# Altium integrated library Altera MAX 7000S.IntLib: 338 symbols (part 16 of 20)
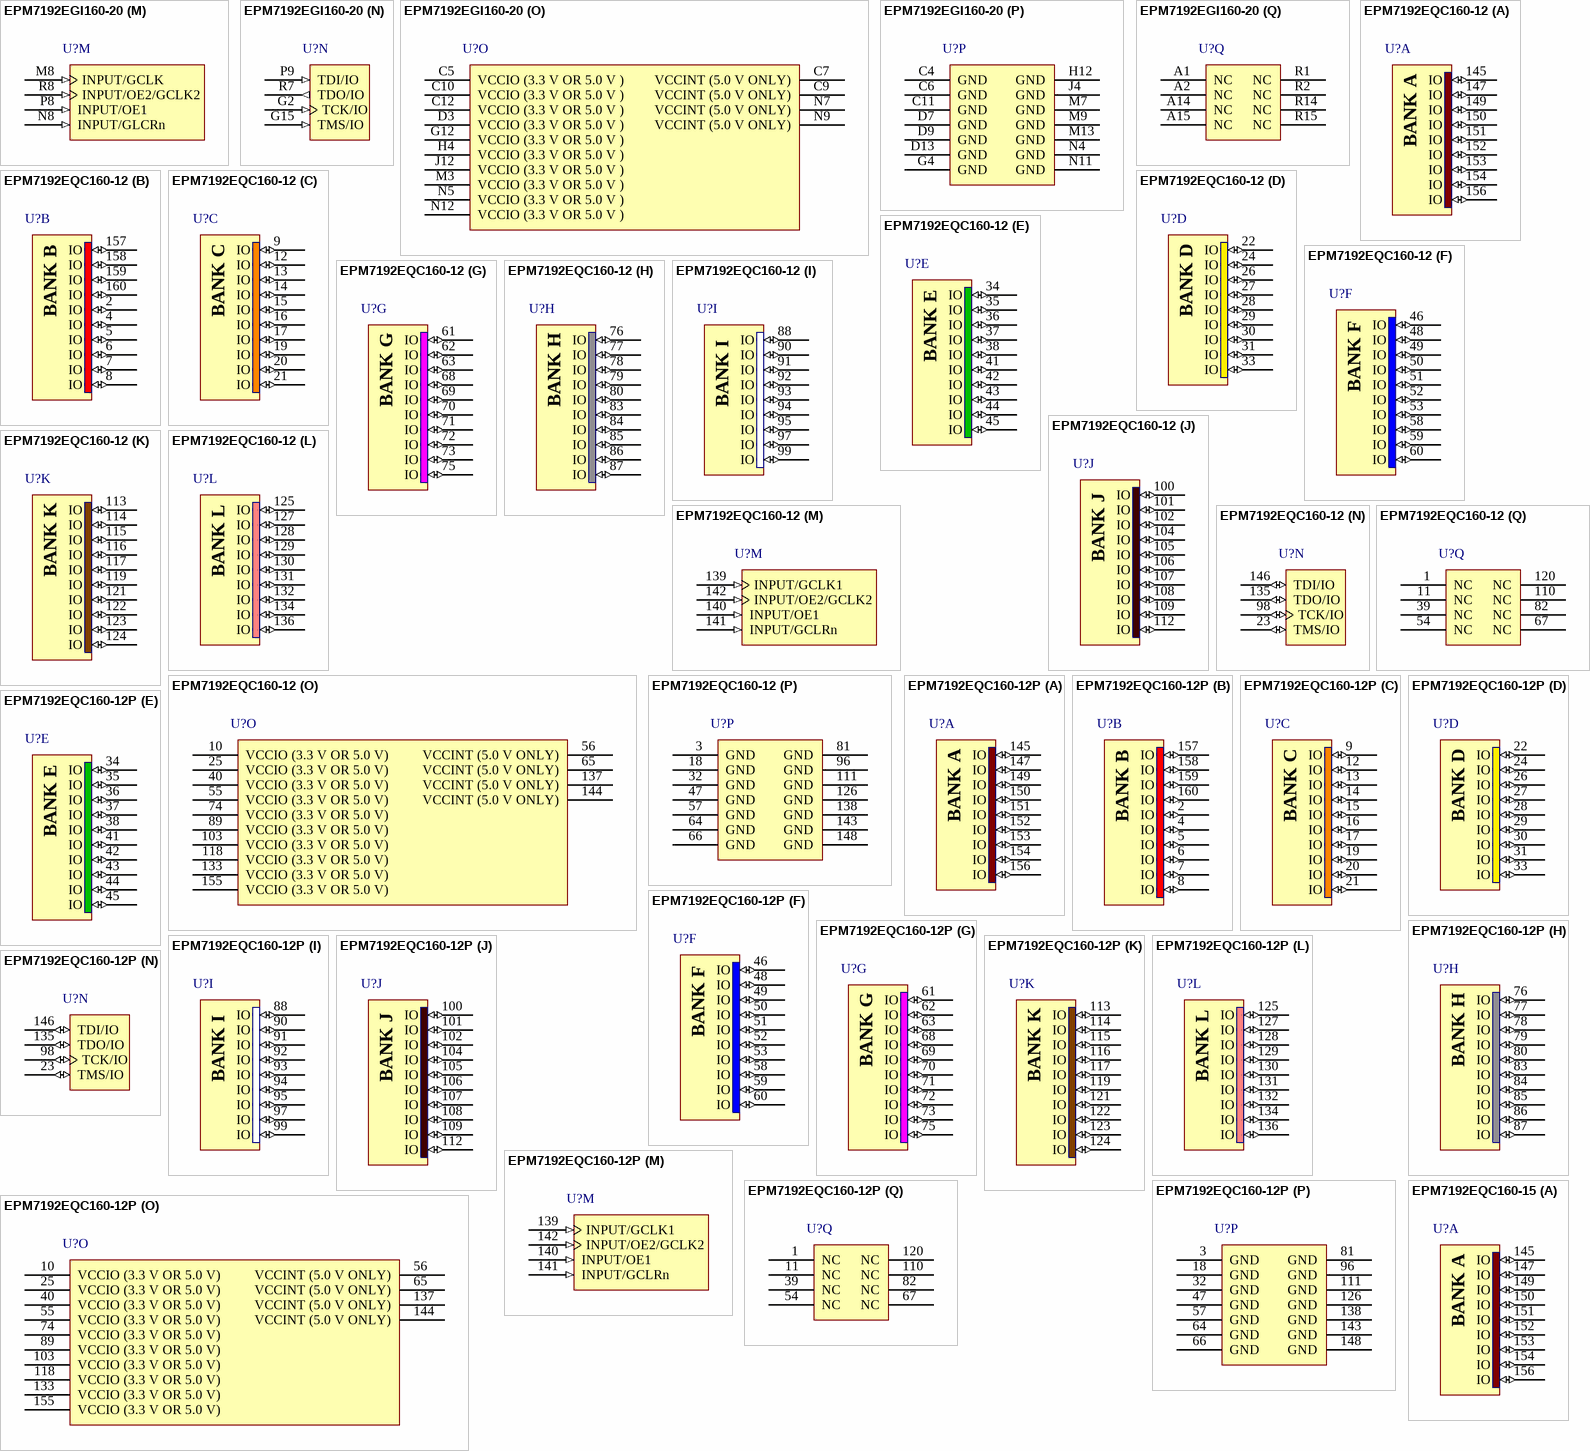
[diagram p112: symbols EPM7192EGI160-20 to EPM7192EQC160-15]

## EPM7192EQC160-12
designator U?
MAX 7000E 5V CPLD, 192 Macrocells, 160-Pin PQFP, Speed Grade 12, Commercial Grade; Published: 24-Nov-2000; LatestRevisionDate: 13-Apr-2006; LatestRevisionNote: IPC-7351 Footprint Added.; DatasheetVersion: ver6.7, Sep-2005; PackageVersion: ver14.3, Jul-2006; PackageReference: PQFP160; Publisher: Altium Limited; PackageDescription: 160-Pin Plastic Quad Flat Pack (PFQP160); Code_JEDEC: MS-022-DD-1; Code_IPC: QFP65P3120X3120-160; ComponentLink1Description: Manufacturer Link; ComponentLink1URL: http://www.altera.com/products/devices/max7k/m7k-index.html; ComponentLink2Description: Datasheet; ComponentLink2URL: http://www.altera.com/literature/ds/m7000.pdf; ComponentLink3Description: Packaging Specification; ComponentLink3URL: http://www.altera.com/literature/ds/dspkg.pdf
footprint PQFP160_N (QFP, 160-Leads, Body 28 x 28mm, Pitch 0.65mm, IPC Medium Density)
footprint PQFP160_L (QFP, 160-Leads, Body 28 x 28mm, Pitch 0.65mm, IPC High Density)
footprint PQFP160_M (QFP, 160-Leads, Body 28 x 28mm, Pitch 0.65mm, IPC Low Density)
3D model EPM7192E-PQFP160 (160-Pin Plastic Quad Flat Pack (PFQP160))
signal-integrity model 7k (MAX 7000S)
part A pins: 145 IO (io), 147 IO (io), 149 IO (io), 150 IO (io), 151 IO (io), 152 IO (io), 153 IO (io), 154 IO (io), 156 IO (io)
part B pins: 2 IO (io), 4 IO (io), 5 IO (io), 6 IO (io), 7 IO (io), 8 IO (io), 157 IO (io), 158 IO (io), 159 IO (io), 160 IO (io)
part C pins: 9 IO (io), 12 IO (io), 13 IO (io), 14 IO (io), 15 IO (io), 16 IO (io), 17 IO (io), 19 IO (io), 20 IO (io), 21 IO (io)
part D pins: 22 IO (io), 24 IO (io), 26 IO (io), 27 IO (io), 28 IO (io), 29 IO (io), 30 IO (io), 31 IO (io), 33 IO (io)
part E pins: 34 IO (io), 35 IO (io), 36 IO (io), 37 IO (io), 38 IO (io), 41 IO (io), 42 IO (io), 43 IO (io), 44 IO (io), 45 IO (io)
part F pins: 46 IO (io), 48 IO (io), 49 IO (io), 50 IO (io), 51 IO (io), 52 IO (io), 53 IO (io), 58 IO (io), 59 IO (io), 60 IO (io)
part G pins: 61 IO (io), 62 IO (io), 63 IO (io), 68 IO (io), 69 IO (io), 70 IO (io), 71 IO (io), 72 IO (io), 73 IO (io), 75 IO (io)
part H pins: 76 IO (io), 77 IO (io), 78 IO (io), 79 IO (io), 80 IO (io), 83 IO (io), 84 IO (io), 85 IO (io), 86 IO (io), 87 IO (io)
part I pins: 88 IO (io), 90 IO (io), 91 IO (io), 92 IO (io), 93 IO (io), 94 IO (io), 95 IO (io), 97 IO (io), 99 IO (io)
part J pins: 100 IO (io), 101 IO (io), 102 IO (io), 104 IO (io), 105 IO (io), 106 IO (io), 107 IO (io), 108 IO (io), 109 IO (io), 112 IO (io)
part K pins: 113 IO (io), 114 IO (io), 115 IO (io), 116 IO (io), 117 IO (io), 119 IO (io), 121 IO (io), 122 IO (io), 123 IO (io), 124 IO (io)
part L pins: 125 IO (io), 127 IO (io), 128 IO (io), 129 IO (io), 130 IO (io), 131 IO (io), 132 IO (io), 134 IO (io), 136 IO (io)
part M pins: 139 INPUT/GCLK1 (in), 140 INPUT/OE1 (in), 141 INPUT/GCLRn (in), 142 INPUT/OE2/GCLK2 (in)
part N pins: 23 TMS/IO (io), 98 TCK/IO (io), 135 TDO/IO (io), 146 TDI/IO (io)
part O pins: 10 VCCIO (3.3 V OR 5.0 V) (power), 25 VCCIO (3.3 V OR 5.0 V) (power), 40 VCCIO (3.3 V OR 5.0 V) (power), 55 VCCIO (3.3 V OR 5.0 V) (power), 56 VCCINT (5.0 V ONLY) (power), 65 VCCINT (5.0 V ONLY) (power), 74 VCCIO (3.3 V OR 5.0 V) (power), 89 VCCIO (3.3 V OR 5.0 V) (power), 103 VCCIO (3.3 V OR 5.0 V) (power), 118 VCCIO (3.3 V OR 5.0 V) (power), 133 VCCIO (3.3 V OR 5.0 V) (power), 137 VCCINT (5.0 V ONLY) (power), 144 VCCINT (5.0 V ONLY) (power), 155 VCCIO (3.3 V OR 5.0 V) (power)
part P pins: 3 GND (power), 18 GND (power), 32 GND (power), 47 GND (power), 57 GND (power), 64 GND (power), 66 GND (power), 81 GND (power), 96 GND (power), 111 GND (power), 126 GND (power), 138 GND (power), 143 GND (power), 148 GND (power)
part Q pins: 1 NC, 11 NC, 39 NC, 54 NC, 67 NC, 82 NC, 110 NC, 120 NC
part A text: BANK A
part B text: BANK B
part C text: BANK C
part D text: BANK D
part E text: BANK E
part F text: BANK F
part G text: BANK G
part H text: BANK H
part I text: BANK I
part J text: BANK J
part K text: BANK K
part L text: BANK L

## EPM7192EQC160-12P
designator U?
MAX 7000E 5V CPLD, 192 Macrocells, 160-Pin PQFP, Speed Grade 12P, Commercial Grade; Published: 24-Nov-2000; LatestRevisionDate: 13-Apr-2006; LatestRevisionNote: IPC-7351 Footprint Added.; DatasheetVersion: ver6.7, Sep-2005; PackageVersion: ver14.3, Jul-2006; PackageReference: PQFP160; Publisher: Altium Limited; PackageDescription: 160-Pin Plastic Quad Flat Pack (PFQP160); Code_JEDEC: MS-022-DD-1; Code_IPC: QFP65P3120X3120-160; ComponentLink1Description: Manufacturer Link; ComponentLink1URL: http://www.altera.com/products/devices/max7k/m7k-index.html; ComponentLink2Description: Datasheet; ComponentLink2URL: http://www.altera.com/literature/ds/m7000.pdf; ComponentLink3Description: Packaging Specification; ComponentLink3URL: http://www.altera.com/literature/ds/dspkg.pdf
footprint PQFP160_N (QFP, 160-Leads, Body 28 x 28mm, Pitch 0.65mm, IPC Medium Density)
footprint PQFP160_L (QFP, 160-Leads, Body 28 x 28mm, Pitch 0.65mm, IPC High Density)
footprint PQFP160_M (QFP, 160-Leads, Body 28 x 28mm, Pitch 0.65mm, IPC Low Density)
3D model EPM7192E-PQFP160 (160-Pin Plastic Quad Flat Pack (PFQP160))
signal-integrity model 7k (MAX 7000S)
part A pins: 145 IO (io), 147 IO (io), 149 IO (io), 150 IO (io), 151 IO (io), 152 IO (io), 153 IO (io), 154 IO (io), 156 IO (io)
part B pins: 2 IO (io), 4 IO (io), 5 IO (io), 6 IO (io), 7 IO (io), 8 IO (io), 157 IO (io), 158 IO (io), 159 IO (io), 160 IO (io)
part C pins: 9 IO (io), 12 IO (io), 13 IO (io), 14 IO (io), 15 IO (io), 16 IO (io), 17 IO (io), 19 IO (io), 20 IO (io), 21 IO (io)
part D pins: 22 IO (io), 24 IO (io), 26 IO (io), 27 IO (io), 28 IO (io), 29 IO (io), 30 IO (io), 31 IO (io), 33 IO (io)
part E pins: 34 IO (io), 35 IO (io), 36 IO (io), 37 IO (io), 38 IO (io), 41 IO (io), 42 IO (io), 43 IO (io), 44 IO (io), 45 IO (io)
part F pins: 46 IO (io), 48 IO (io), 49 IO (io), 50 IO (io), 51 IO (io), 52 IO (io), 53 IO (io), 58 IO (io), 59 IO (io), 60 IO (io)
part G pins: 61 IO (io), 62 IO (io), 63 IO (io), 68 IO (io), 69 IO (io), 70 IO (io), 71 IO (io), 72 IO (io), 73 IO (io), 75 IO (io)
part H pins: 76 IO (io), 77 IO (io), 78 IO (io), 79 IO (io), 80 IO (io), 83 IO (io), 84 IO (io), 85 IO (io), 86 IO (io), 87 IO (io)
part I pins: 88 IO (io), 90 IO (io), 91 IO (io), 92 IO (io), 93 IO (io), 94 IO (io), 95 IO (io), 97 IO (io), 99 IO (io)
part J pins: 100 IO (io), 101 IO (io), 102 IO (io), 104 IO (io), 105 IO (io), 106 IO (io), 107 IO (io), 108 IO (io), 109 IO (io), 112 IO (io)
part K pins: 113 IO (io), 114 IO (io), 115 IO (io), 116 IO (io), 117 IO (io), 119 IO (io), 121 IO (io), 122 IO (io), 123 IO (io), 124 IO (io)
part L pins: 125 IO (io), 127 IO (io), 128 IO (io), 129 IO (io), 130 IO (io), 131 IO (io), 132 IO (io), 134 IO (io), 136 IO (io)
part M pins: 139 INPUT/GCLK1 (in), 140 INPUT/OE1 (in), 141 INPUT/GCLRn (in), 142 INPUT/OE2/GCLK2 (in)
part N pins: 23 TMS/IO (io), 98 TCK/IO (io), 135 TDO/IO (io), 146 TDI/IO (io)
part O pins: 10 VCCIO (3.3 V OR 5.0 V) (power), 25 VCCIO (3.3 V OR 5.0 V) (power), 40 VCCIO (3.3 V OR 5.0 V) (power), 55 VCCIO (3.3 V OR 5.0 V) (power), 56 VCCINT (5.0 V ONLY) (power), 65 VCCINT (5.0 V ONLY) (power), 74 VCCIO (3.3 V OR 5.0 V) (power), 89 VCCIO (3.3 V OR 5.0 V) (power), 103 VCCIO (3.3 V OR 5.0 V) (power), 118 VCCIO (3.3 V OR 5.0 V) (power), 133 VCCIO (3.3 V OR 5.0 V) (power), 137 VCCINT (5.0 V ONLY) (power), 144 VCCINT (5.0 V ONLY) (power), 155 VCCIO (3.3 V OR 5.0 V) (power)
part P pins: 3 GND (power), 18 GND (power), 32 GND (power), 47 GND (power), 57 GND (power), 64 GND (power), 66 GND (power), 81 GND (power), 96 GND (power), 111 GND (power), 126 GND (power), 138 GND (power), 143 GND (power), 148 GND (power)
part Q pins: 1 NC, 11 NC, 39 NC, 54 NC, 67 NC, 82 NC, 110 NC, 120 NC
part A text: BANK A
part B text: BANK B
part C text: BANK C
part D text: BANK D
part E text: BANK E
part F text: BANK F
part G text: BANK G
part H text: BANK H
part I text: BANK I
part J text: BANK J
part K text: BANK K
part L text: BANK L

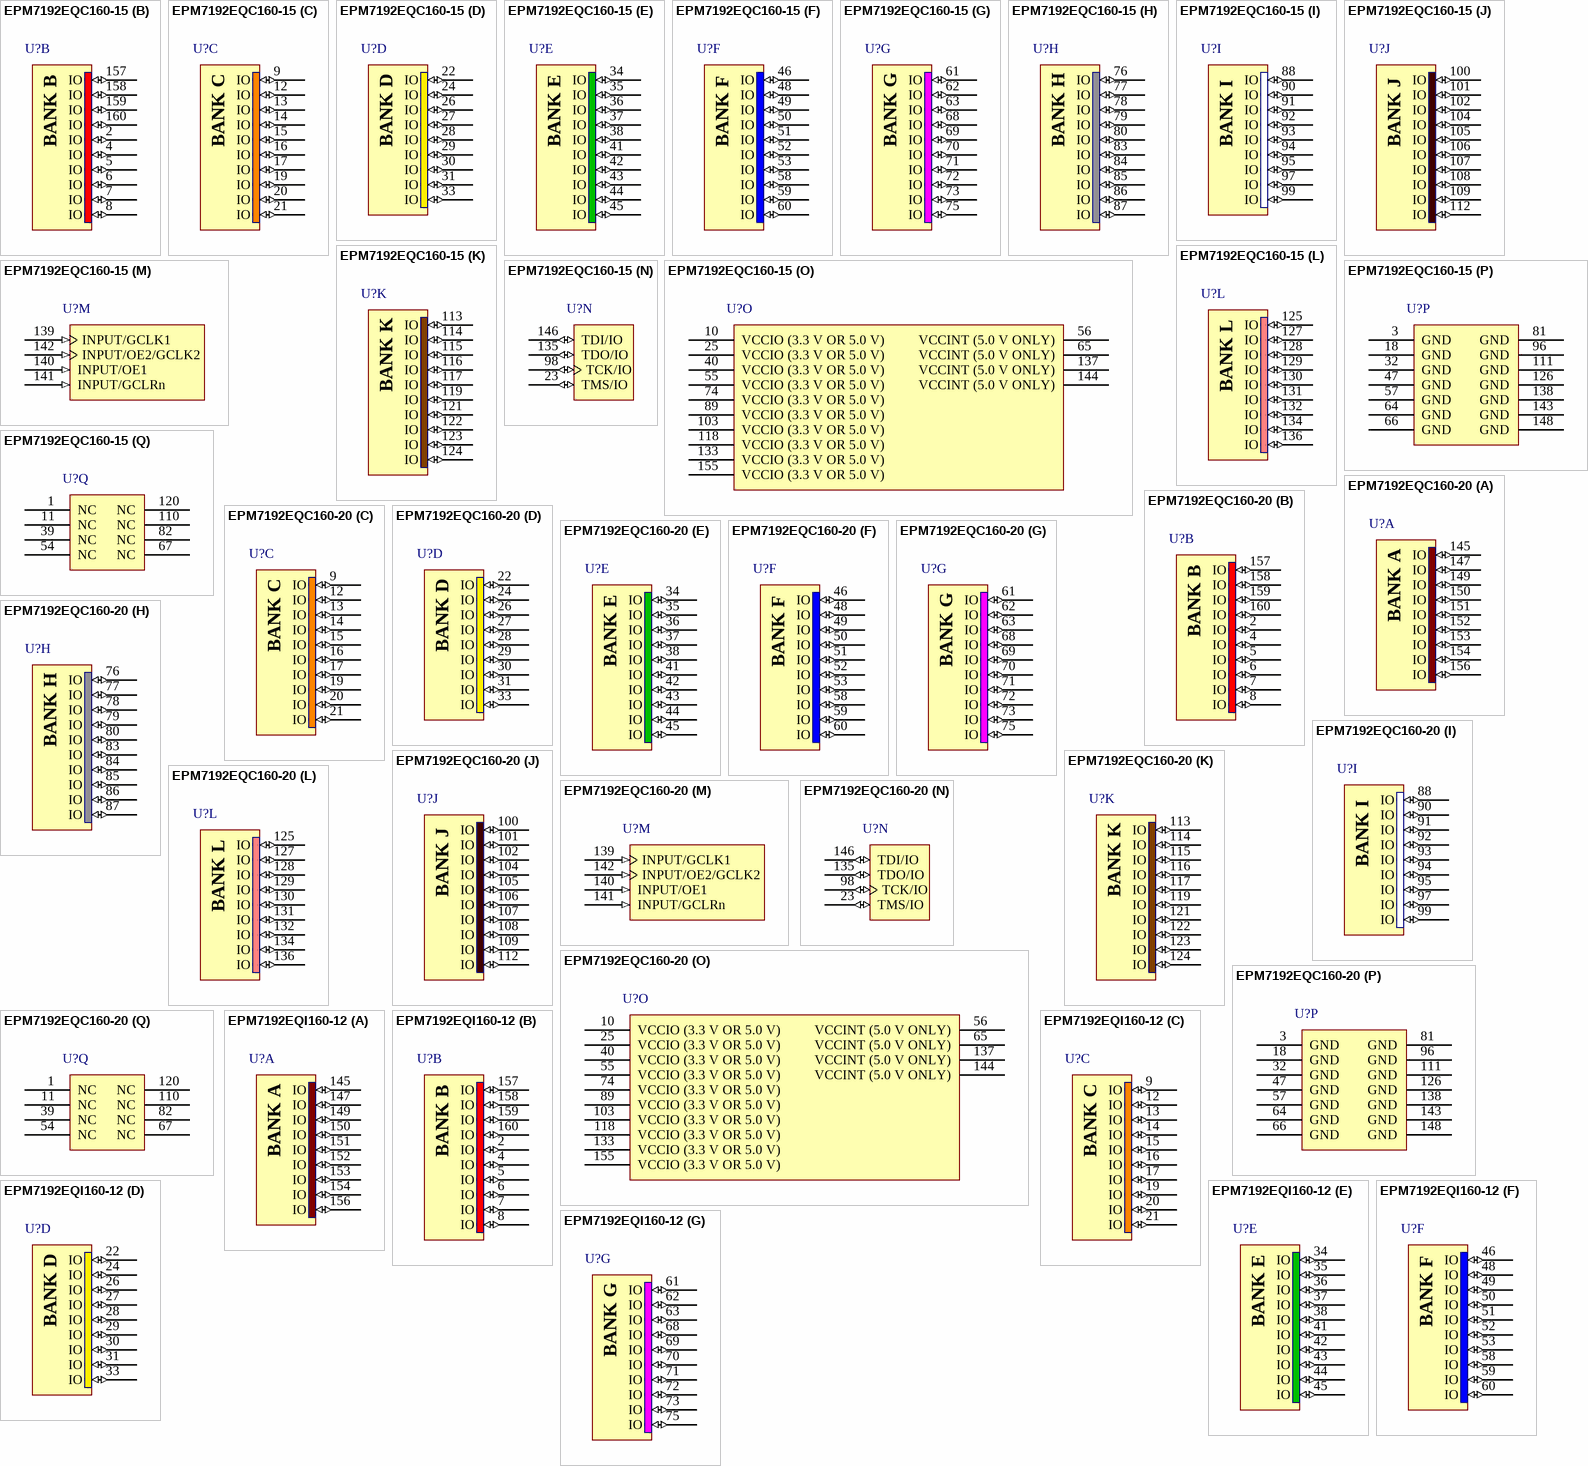
[diagram p75: symbols EPM7192EQC160-15 to EPM7192EQI160-12]

## EPM7192EQC160-15
designator U?
MAX 7000E 5V CPLD, 192 Macrocells, 160-Pin PQFP, Speed Grade 15, Commercial Grade; Published: 24-Nov-2000; LatestRevisionDate: 13-Apr-2006; LatestRevisionNote: IPC-7351 Footprint Added.; DatasheetVersion: ver6.7, Sep-2005; PackageVersion: ver14.3, Jul-2006; PackageReference: PQFP160; Publisher: Altium Limited; PackageDescription: 160-Pin Plastic Quad Flat Pack (PFQP160); Code_JEDEC: MS-022-DD-1; Code_IPC: QFP65P3120X3120-160; ComponentLink1Description: Manufacturer Link; ComponentLink1URL: http://www.altera.com/products/devices/max7k/m7k-index.html; ComponentLink2Description: Datasheet; ComponentLink2URL: http://www.altera.com/literature/ds/m7000.pdf; ComponentLink3Description: Packaging Specification; ComponentLink3URL: http://www.altera.com/literature/ds/dspkg.pdf
footprint PQFP160_N (QFP, 160-Leads, Body 28 x 28mm, Pitch 0.65mm, IPC Medium Density)
footprint PQFP160_L (QFP, 160-Leads, Body 28 x 28mm, Pitch 0.65mm, IPC High Density)
footprint PQFP160_M (QFP, 160-Leads, Body 28 x 28mm, Pitch 0.65mm, IPC Low Density)
3D model EPM7192E-PQFP160 (160-Pin Plastic Quad Flat Pack (PFQP160))
signal-integrity model 7k (MAX 7000S)
part A pins: 145 IO (io), 147 IO (io), 149 IO (io), 150 IO (io), 151 IO (io), 152 IO (io), 153 IO (io), 154 IO (io), 156 IO (io)
part B pins: 2 IO (io), 4 IO (io), 5 IO (io), 6 IO (io), 7 IO (io), 8 IO (io), 157 IO (io), 158 IO (io), 159 IO (io), 160 IO (io)
part C pins: 9 IO (io), 12 IO (io), 13 IO (io), 14 IO (io), 15 IO (io), 16 IO (io), 17 IO (io), 19 IO (io), 20 IO (io), 21 IO (io)
part D pins: 22 IO (io), 24 IO (io), 26 IO (io), 27 IO (io), 28 IO (io), 29 IO (io), 30 IO (io), 31 IO (io), 33 IO (io)
part E pins: 34 IO (io), 35 IO (io), 36 IO (io), 37 IO (io), 38 IO (io), 41 IO (io), 42 IO (io), 43 IO (io), 44 IO (io), 45 IO (io)
part F pins: 46 IO (io), 48 IO (io), 49 IO (io), 50 IO (io), 51 IO (io), 52 IO (io), 53 IO (io), 58 IO (io), 59 IO (io), 60 IO (io)
part G pins: 61 IO (io), 62 IO (io), 63 IO (io), 68 IO (io), 69 IO (io), 70 IO (io), 71 IO (io), 72 IO (io), 73 IO (io), 75 IO (io)
part H pins: 76 IO (io), 77 IO (io), 78 IO (io), 79 IO (io), 80 IO (io), 83 IO (io), 84 IO (io), 85 IO (io), 86 IO (io), 87 IO (io)
part I pins: 88 IO (io), 90 IO (io), 91 IO (io), 92 IO (io), 93 IO (io), 94 IO (io), 95 IO (io), 97 IO (io), 99 IO (io)
part J pins: 100 IO (io), 101 IO (io), 102 IO (io), 104 IO (io), 105 IO (io), 106 IO (io), 107 IO (io), 108 IO (io), 109 IO (io), 112 IO (io)
part K pins: 113 IO (io), 114 IO (io), 115 IO (io), 116 IO (io), 117 IO (io), 119 IO (io), 121 IO (io), 122 IO (io), 123 IO (io), 124 IO (io)
part L pins: 125 IO (io), 127 IO (io), 128 IO (io), 129 IO (io), 130 IO (io), 131 IO (io), 132 IO (io), 134 IO (io), 136 IO (io)
part M pins: 139 INPUT/GCLK1 (in), 140 INPUT/OE1 (in), 141 INPUT/GCLRn (in), 142 INPUT/OE2/GCLK2 (in)
part N pins: 23 TMS/IO (io), 98 TCK/IO (io), 135 TDO/IO (io), 146 TDI/IO (io)
part O pins: 10 VCCIO (3.3 V OR 5.0 V) (power), 25 VCCIO (3.3 V OR 5.0 V) (power), 40 VCCIO (3.3 V OR 5.0 V) (power), 55 VCCIO (3.3 V OR 5.0 V) (power), 56 VCCINT (5.0 V ONLY) (power), 65 VCCINT (5.0 V ONLY) (power), 74 VCCIO (3.3 V OR 5.0 V) (power), 89 VCCIO (3.3 V OR 5.0 V) (power), 103 VCCIO (3.3 V OR 5.0 V) (power), 118 VCCIO (3.3 V OR 5.0 V) (power), 133 VCCIO (3.3 V OR 5.0 V) (power), 137 VCCINT (5.0 V ONLY) (power), 144 VCCINT (5.0 V ONLY) (power), 155 VCCIO (3.3 V OR 5.0 V) (power)
part P pins: 3 GND (power), 18 GND (power), 32 GND (power), 47 GND (power), 57 GND (power), 64 GND (power), 66 GND (power), 81 GND (power), 96 GND (power), 111 GND (power), 126 GND (power), 138 GND (power), 143 GND (power), 148 GND (power)
part Q pins: 1 NC, 11 NC, 39 NC, 54 NC, 67 NC, 82 NC, 110 NC, 120 NC
part A text: BANK A
part B text: BANK B
part C text: BANK C
part D text: BANK D
part E text: BANK E
part F text: BANK F
part G text: BANK G
part H text: BANK H
part I text: BANK I
part J text: BANK J
part K text: BANK K
part L text: BANK L

## EPM7192EQC160-20
designator U?
MAX 7000E 5V CPLD, 192 Macrocells, 160-Pin PQFP, Speed Grade 20, Commercial Grade; Published: 24-Nov-2000; LatestRevisionDate: 13-Apr-2006; LatestRevisionNote: IPC-7351 Footprint Added.; DatasheetVersion: ver6.7, Sep-2005; PackageVersion: ver14.3, Jul-2006; PackageReference: PQFP160; Publisher: Altium Limited; PackageDescription: 160-Pin Plastic Quad Flat Pack (PFQP160); Code_JEDEC: MS-022-DD-1; Code_IPC: QFP65P3120X3120-160; ComponentLink1Description: Manufacturer Link; ComponentLink1URL: http://www.altera.com/products/devices/max7k/m7k-index.html; ComponentLink2Description: Datasheet; ComponentLink2URL: http://www.altera.com/literature/ds/m7000.pdf; ComponentLink3Description: Packaging Specification; ComponentLink3URL: http://www.altera.com/literature/ds/dspkg.pdf
footprint PQFP160_N (QFP, 160-Leads, Body 28 x 28mm, Pitch 0.65mm, IPC Medium Density)
footprint PQFP160_L (QFP, 160-Leads, Body 28 x 28mm, Pitch 0.65mm, IPC High Density)
footprint PQFP160_M (QFP, 160-Leads, Body 28 x 28mm, Pitch 0.65mm, IPC Low Density)
3D model EPM7192E-PQFP160 (160-Pin Plastic Quad Flat Pack (PFQP160))
signal-integrity model 7k (MAX 7000S)
part A pins: 145 IO (io), 147 IO (io), 149 IO (io), 150 IO (io), 151 IO (io), 152 IO (io), 153 IO (io), 154 IO (io), 156 IO (io)
part B pins: 2 IO (io), 4 IO (io), 5 IO (io), 6 IO (io), 7 IO (io), 8 IO (io), 157 IO (io), 158 IO (io), 159 IO (io), 160 IO (io)
part C pins: 9 IO (io), 12 IO (io), 13 IO (io), 14 IO (io), 15 IO (io), 16 IO (io), 17 IO (io), 19 IO (io), 20 IO (io), 21 IO (io)
part D pins: 22 IO (io), 24 IO (io), 26 IO (io), 27 IO (io), 28 IO (io), 29 IO (io), 30 IO (io), 31 IO (io), 33 IO (io)
part E pins: 34 IO (io), 35 IO (io), 36 IO (io), 37 IO (io), 38 IO (io), 41 IO (io), 42 IO (io), 43 IO (io), 44 IO (io), 45 IO (io)
part F pins: 46 IO (io), 48 IO (io), 49 IO (io), 50 IO (io), 51 IO (io), 52 IO (io), 53 IO (io), 58 IO (io), 59 IO (io), 60 IO (io)
part G pins: 61 IO (io), 62 IO (io), 63 IO (io), 68 IO (io), 69 IO (io), 70 IO (io), 71 IO (io), 72 IO (io), 73 IO (io), 75 IO (io)
part H pins: 76 IO (io), 77 IO (io), 78 IO (io), 79 IO (io), 80 IO (io), 83 IO (io), 84 IO (io), 85 IO (io), 86 IO (io), 87 IO (io)
part I pins: 88 IO (io), 90 IO (io), 91 IO (io), 92 IO (io), 93 IO (io), 94 IO (io), 95 IO (io), 97 IO (io), 99 IO (io)
part J pins: 100 IO (io), 101 IO (io), 102 IO (io), 104 IO (io), 105 IO (io), 106 IO (io), 107 IO (io), 108 IO (io), 109 IO (io), 112 IO (io)
part K pins: 113 IO (io), 114 IO (io), 115 IO (io), 116 IO (io), 117 IO (io), 119 IO (io), 121 IO (io), 122 IO (io), 123 IO (io), 124 IO (io)
part L pins: 125 IO (io), 127 IO (io), 128 IO (io), 129 IO (io), 130 IO (io), 131 IO (io), 132 IO (io), 134 IO (io), 136 IO (io)
part M pins: 139 INPUT/GCLK1 (in), 140 INPUT/OE1 (in), 141 INPUT/GCLRn (in), 142 INPUT/OE2/GCLK2 (in)
part N pins: 23 TMS/IO (io), 98 TCK/IO (io), 135 TDO/IO (io), 146 TDI/IO (io)
part O pins: 10 VCCIO (3.3 V OR 5.0 V) (power), 25 VCCIO (3.3 V OR 5.0 V) (power), 40 VCCIO (3.3 V OR 5.0 V) (power), 55 VCCIO (3.3 V OR 5.0 V) (power), 56 VCCINT (5.0 V ONLY) (power), 65 VCCINT (5.0 V ONLY) (power), 74 VCCIO (3.3 V OR 5.0 V) (power), 89 VCCIO (3.3 V OR 5.0 V) (power), 103 VCCIO (3.3 V OR 5.0 V) (power), 118 VCCIO (3.3 V OR 5.0 V) (power), 133 VCCIO (3.3 V OR 5.0 V) (power), 137 VCCINT (5.0 V ONLY) (power), 144 VCCINT (5.0 V ONLY) (power), 155 VCCIO (3.3 V OR 5.0 V) (power)
part P pins: 3 GND (power), 18 GND (power), 32 GND (power), 47 GND (power), 57 GND (power), 64 GND (power), 66 GND (power), 81 GND (power), 96 GND (power), 111 GND (power), 126 GND (power), 138 GND (power), 143 GND (power), 148 GND (power)
part Q pins: 1 NC, 11 NC, 39 NC, 54 NC, 67 NC, 82 NC, 110 NC, 120 NC
part A text: BANK A
part B text: BANK B
part C text: BANK C
part D text: BANK D
part E text: BANK E
part F text: BANK F
part G text: BANK G
part H text: BANK H
part I text: BANK I
part J text: BANK J
part K text: BANK K
part L text: BANK L

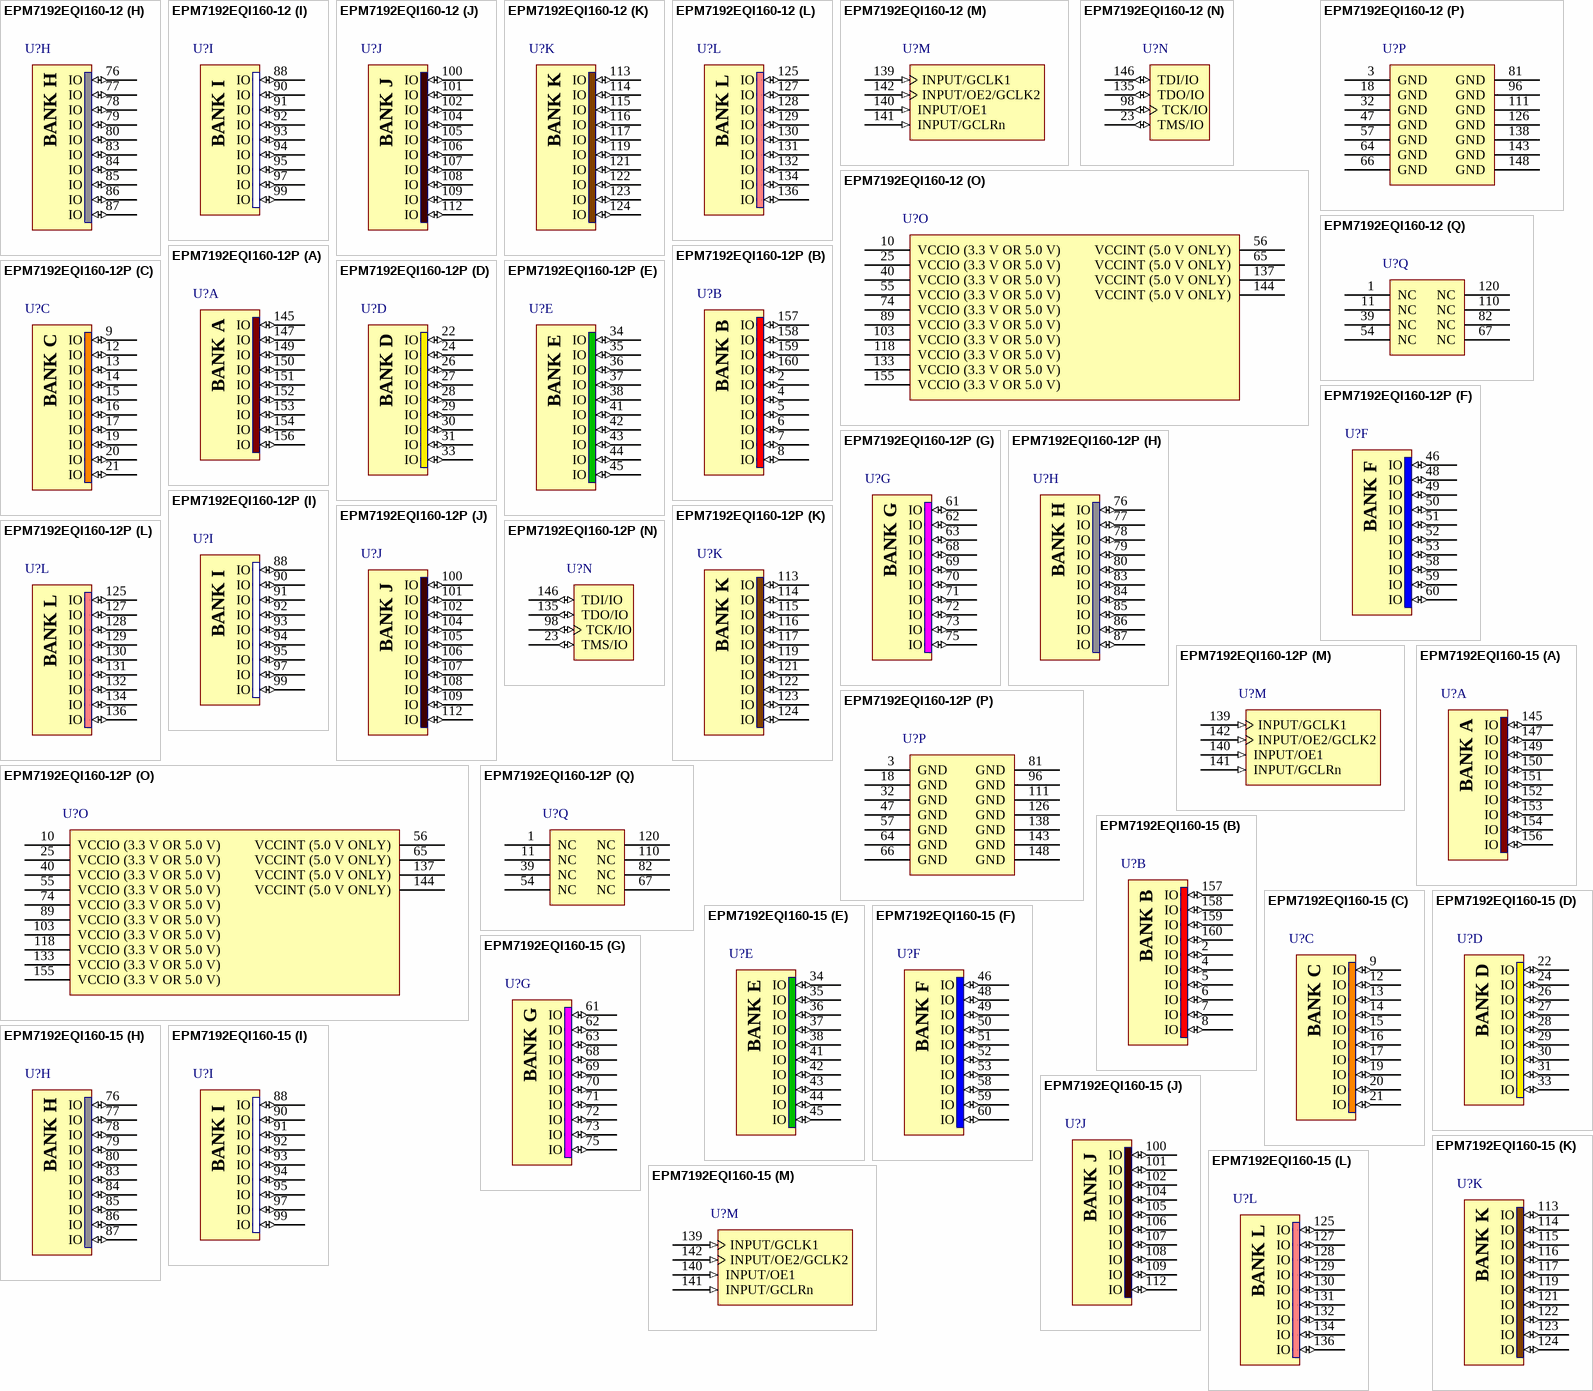
[diagram p76: symbols EPM7192EQI160-12 to EPM7192EQI160-15]

## EPM7192EQI160-12
designator U?
MAX 7000E 5V CPLD, 192 Macrocells, 160-Pin PQFP, Speed Grade 12, Industrial Grade; Published: 17-Sep-2003; LatestRevisionDate: 13-Apr-2006; LatestRevisionNote: IPC-7351 Footprint Added.; DatasheetVersion: ver6.7, Sep-2005; PackageVersion: ver14.3, Jul-2006; PackageReference: PQFP160; Publisher: Altium Limited; PackageDescription: 160-Pin Plastic Quad Flat Pack (PFQP160); Code_JEDEC: MS-022-DD-1; Code_IPC: QFP65P3120X3120-160; ComponentLink1Description: Manufacturer Link; ComponentLink1URL: http://www.altera.com/products/devices/max7k/m7k-index.html; ComponentLink2Description: Datasheet; ComponentLink2URL: http://www.altera.com/literature/ds/m7000.pdf; ComponentLink3Description: Packaging Specification; ComponentLink3URL: http://www.altera.com/literature/ds/dspkg.pdf
footprint PQFP160_N (QFP, 160-Leads, Body 28 x 28mm, Pitch 0.65mm, IPC Medium Density)
footprint PQFP160_L (QFP, 160-Leads, Body 28 x 28mm, Pitch 0.65mm, IPC High Density)
footprint PQFP160_M (QFP, 160-Leads, Body 28 x 28mm, Pitch 0.65mm, IPC Low Density)
3D model EPM7192E-PQFP160 (160-Pin Plastic Quad Flat Pack (PFQP160))
signal-integrity model 7k (MAX 7000S)
part A pins: 145 IO (io), 147 IO (io), 149 IO (io), 150 IO (io), 151 IO (io), 152 IO (io), 153 IO (io), 154 IO (io), 156 IO (io)
part B pins: 2 IO (io), 4 IO (io), 5 IO (io), 6 IO (io), 7 IO (io), 8 IO (io), 157 IO (io), 158 IO (io), 159 IO (io), 160 IO (io)
part C pins: 9 IO (io), 12 IO (io), 13 IO (io), 14 IO (io), 15 IO (io), 16 IO (io), 17 IO (io), 19 IO (io), 20 IO (io), 21 IO (io)
part D pins: 22 IO (io), 24 IO (io), 26 IO (io), 27 IO (io), 28 IO (io), 29 IO (io), 30 IO (io), 31 IO (io), 33 IO (io)
part E pins: 34 IO (io), 35 IO (io), 36 IO (io), 37 IO (io), 38 IO (io), 41 IO (io), 42 IO (io), 43 IO (io), 44 IO (io), 45 IO (io)
part F pins: 46 IO (io), 48 IO (io), 49 IO (io), 50 IO (io), 51 IO (io), 52 IO (io), 53 IO (io), 58 IO (io), 59 IO (io), 60 IO (io)
part G pins: 61 IO (io), 62 IO (io), 63 IO (io), 68 IO (io), 69 IO (io), 70 IO (io), 71 IO (io), 72 IO (io), 73 IO (io), 75 IO (io)
part H pins: 76 IO (io), 77 IO (io), 78 IO (io), 79 IO (io), 80 IO (io), 83 IO (io), 84 IO (io), 85 IO (io), 86 IO (io), 87 IO (io)
part I pins: 88 IO (io), 90 IO (io), 91 IO (io), 92 IO (io), 93 IO (io), 94 IO (io), 95 IO (io), 97 IO (io), 99 IO (io)
part J pins: 100 IO (io), 101 IO (io), 102 IO (io), 104 IO (io), 105 IO (io), 106 IO (io), 107 IO (io), 108 IO (io), 109 IO (io), 112 IO (io)
part K pins: 113 IO (io), 114 IO (io), 115 IO (io), 116 IO (io), 117 IO (io), 119 IO (io), 121 IO (io), 122 IO (io), 123 IO (io), 124 IO (io)
part L pins: 125 IO (io), 127 IO (io), 128 IO (io), 129 IO (io), 130 IO (io), 131 IO (io), 132 IO (io), 134 IO (io), 136 IO (io)
part M pins: 139 INPUT/GCLK1 (in), 140 INPUT/OE1 (in), 141 INPUT/GCLRn (in), 142 INPUT/OE2/GCLK2 (in)
part N pins: 23 TMS/IO (io), 98 TCK/IO (io), 135 TDO/IO (io), 146 TDI/IO (io)
part O pins: 10 VCCIO (3.3 V OR 5.0 V) (power), 25 VCCIO (3.3 V OR 5.0 V) (power), 40 VCCIO (3.3 V OR 5.0 V) (power), 55 VCCIO (3.3 V OR 5.0 V) (power), 56 VCCINT (5.0 V ONLY) (power), 65 VCCINT (5.0 V ONLY) (power), 74 VCCIO (3.3 V OR 5.0 V) (power), 89 VCCIO (3.3 V OR 5.0 V) (power), 103 VCCIO (3.3 V OR 5.0 V) (power), 118 VCCIO (3.3 V OR 5.0 V) (power), 133 VCCIO (3.3 V OR 5.0 V) (power), 137 VCCINT (5.0 V ONLY) (power), 144 VCCINT (5.0 V ONLY) (power), 155 VCCIO (3.3 V OR 5.0 V) (power)
part P pins: 3 GND (power), 18 GND (power), 32 GND (power), 47 GND (power), 57 GND (power), 64 GND (power), 66 GND (power), 81 GND (power), 96 GND (power), 111 GND (power), 126 GND (power), 138 GND (power), 143 GND (power), 148 GND (power)
part Q pins: 1 NC, 11 NC, 39 NC, 54 NC, 67 NC, 82 NC, 110 NC, 120 NC
part A text: BANK A
part B text: BANK B
part C text: BANK C
part D text: BANK D
part E text: BANK E
part F text: BANK F
part G text: BANK G
part H text: BANK H
part I text: BANK I
part J text: BANK J
part K text: BANK K
part L text: BANK L

## EPM7192EQI160-12P
designator U?
MAX 7000E 5V CPLD, 192 Macrocells, 160-Pin PQFP, Speed Grade 12P, Industrial Grade; Published: 17-Sep-2003; LatestRevisionDate: 13-Apr-2006; LatestRevisionNote: IPC-7351 Footprint Added.; DatasheetVersion: ver6.7, Sep-2005; PackageVersion: ver14.3, Jul-2006; PackageReference: PQFP160; Publisher: Altium Limited; PackageDescription: 160-Pin Plastic Quad Flat Pack (PFQP160); Code_JEDEC: MS-022-DD-1; Code_IPC: QFP65P3120X3120-160; ComponentLink1Description: Manufacturer Link; ComponentLink1URL: http://www.altera.com/products/devices/max7k/m7k-index.html; ComponentLink2Description: Datasheet; ComponentLink2URL: http://www.altera.com/literature/ds/m7000.pdf; ComponentLink3Description: Packaging Specification; ComponentLink3URL: http://www.altera.com/literature/ds/dspkg.pdf
footprint PQFP160_N (QFP, 160-Leads, Body 28 x 28mm, Pitch 0.65mm, IPC Medium Density)
footprint PQFP160_L (QFP, 160-Leads, Body 28 x 28mm, Pitch 0.65mm, IPC High Density)
footprint PQFP160_M (QFP, 160-Leads, Body 28 x 28mm, Pitch 0.65mm, IPC Low Density)
3D model EPM7192E-PQFP160 (160-Pin Plastic Quad Flat Pack (PFQP160))
signal-integrity model 7k (MAX 7000S)
part A pins: 145 IO (io), 147 IO (io), 149 IO (io), 150 IO (io), 151 IO (io), 152 IO (io), 153 IO (io), 154 IO (io), 156 IO (io)
part B pins: 2 IO (io), 4 IO (io), 5 IO (io), 6 IO (io), 7 IO (io), 8 IO (io), 157 IO (io), 158 IO (io), 159 IO (io), 160 IO (io)
part C pins: 9 IO (io), 12 IO (io), 13 IO (io), 14 IO (io), 15 IO (io), 16 IO (io), 17 IO (io), 19 IO (io), 20 IO (io), 21 IO (io)
part D pins: 22 IO (io), 24 IO (io), 26 IO (io), 27 IO (io), 28 IO (io), 29 IO (io), 30 IO (io), 31 IO (io), 33 IO (io)
part E pins: 34 IO (io), 35 IO (io), 36 IO (io), 37 IO (io), 38 IO (io), 41 IO (io), 42 IO (io), 43 IO (io), 44 IO (io), 45 IO (io)
part F pins: 46 IO (io), 48 IO (io), 49 IO (io), 50 IO (io), 51 IO (io), 52 IO (io), 53 IO (io), 58 IO (io), 59 IO (io), 60 IO (io)
part G pins: 61 IO (io), 62 IO (io), 63 IO (io), 68 IO (io), 69 IO (io), 70 IO (io), 71 IO (io), 72 IO (io), 73 IO (io), 75 IO (io)
part H pins: 76 IO (io), 77 IO (io), 78 IO (io), 79 IO (io), 80 IO (io), 83 IO (io), 84 IO (io), 85 IO (io), 86 IO (io), 87 IO (io)
part I pins: 88 IO (io), 90 IO (io), 91 IO (io), 92 IO (io), 93 IO (io), 94 IO (io), 95 IO (io), 97 IO (io), 99 IO (io)
part J pins: 100 IO (io), 101 IO (io), 102 IO (io), 104 IO (io), 105 IO (io), 106 IO (io), 107 IO (io), 108 IO (io), 109 IO (io), 112 IO (io)
part K pins: 113 IO (io), 114 IO (io), 115 IO (io), 116 IO (io), 117 IO (io), 119 IO (io), 121 IO (io), 122 IO (io), 123 IO (io), 124 IO (io)
part L pins: 125 IO (io), 127 IO (io), 128 IO (io), 129 IO (io), 130 IO (io), 131 IO (io), 132 IO (io), 134 IO (io), 136 IO (io)
part M pins: 139 INPUT/GCLK1 (in), 140 INPUT/OE1 (in), 141 INPUT/GCLRn (in), 142 INPUT/OE2/GCLK2 (in)
part N pins: 23 TMS/IO (io), 98 TCK/IO (io), 135 TDO/IO (io), 146 TDI/IO (io)
part O pins: 10 VCCIO (3.3 V OR 5.0 V) (power), 25 VCCIO (3.3 V OR 5.0 V) (power), 40 VCCIO (3.3 V OR 5.0 V) (power), 55 VCCIO (3.3 V OR 5.0 V) (power), 56 VCCINT (5.0 V ONLY) (power), 65 VCCINT (5.0 V ONLY) (power), 74 VCCIO (3.3 V OR 5.0 V) (power), 89 VCCIO (3.3 V OR 5.0 V) (power), 103 VCCIO (3.3 V OR 5.0 V) (power), 118 VCCIO (3.3 V OR 5.0 V) (power), 133 VCCIO (3.3 V OR 5.0 V) (power), 137 VCCINT (5.0 V ONLY) (power), 144 VCCINT (5.0 V ONLY) (power), 155 VCCIO (3.3 V OR 5.0 V) (power)
part P pins: 3 GND (power), 18 GND (power), 32 GND (power), 47 GND (power), 57 GND (power), 64 GND (power), 66 GND (power), 81 GND (power), 96 GND (power), 111 GND (power), 126 GND (power), 138 GND (power), 143 GND (power), 148 GND (power)
part Q pins: 1 NC, 11 NC, 39 NC, 54 NC, 67 NC, 82 NC, 110 NC, 120 NC
part A text: BANK A
part B text: BANK B
part C text: BANK C
part D text: BANK D
part E text: BANK E
part F text: BANK F
part G text: BANK G
part H text: BANK H
part I text: BANK I
part J text: BANK J
part K text: BANK K
part L text: BANK L

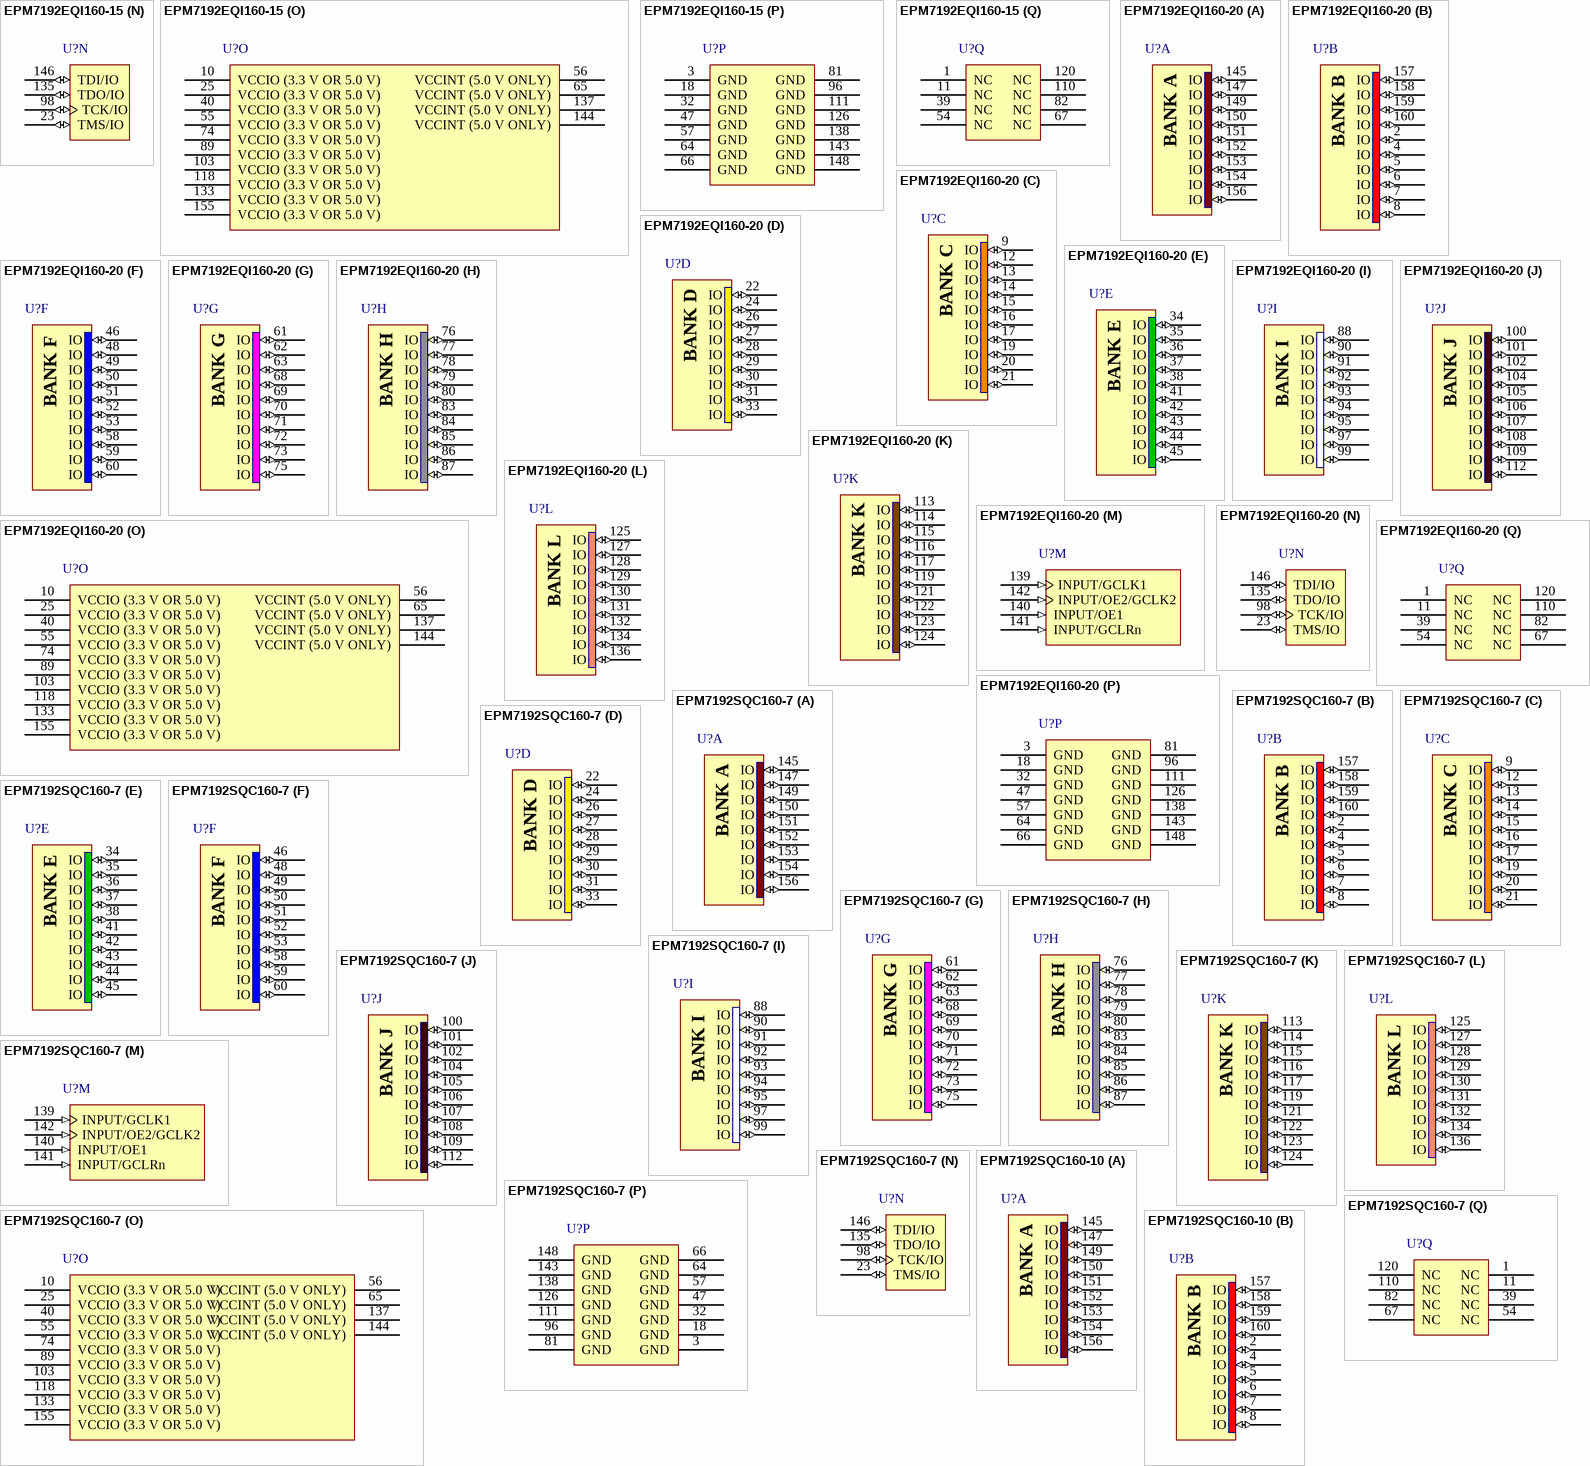
[diagram p77: symbols EPM7192EQI160-15 to EPM7192SQC160-10]

## EPM7192EQI160-15
designator U?
MAX 7000E 5V CPLD, 192 Macrocells, 160-Pin PQFP, Speed Grade 15, Industrial Grade; Published: 24-Nov-2000; LatestRevisionDate: 13-Apr-2006; LatestRevisionNote: IPC-7351 Footprint Added.; DatasheetVersion: ver6.7, Sep-2005; PackageVersion: ver14.3, Jul-2006; PackageReference: PQFP160; Publisher: Altium Limited; PackageDescription: 160-Pin Plastic Quad Flat Pack (PFQP160); Code_JEDEC: MS-022-DD-1; Code_IPC: QFP65P3120X3120-160; ComponentLink1Description: Manufacturer Link; ComponentLink1URL: http://www.altera.com/products/devices/max7k/m7k-index.html; ComponentLink2Description: Datasheet; ComponentLink2URL: http://www.altera.com/literature/ds/m7000.pdf; ComponentLink3Description: Packaging Specification; ComponentLink3URL: http://www.altera.com/literature/ds/dspkg.pdf
footprint PQFP160_N (QFP, 160-Leads, Body 28 x 28mm, Pitch 0.65mm, IPC Medium Density)
footprint PQFP160_L (QFP, 160-Leads, Body 28 x 28mm, Pitch 0.65mm, IPC High Density)
footprint PQFP160_M (QFP, 160-Leads, Body 28 x 28mm, Pitch 0.65mm, IPC Low Density)
3D model EPM7192E-PQFP160 (160-Pin Plastic Quad Flat Pack (PFQP160))
signal-integrity model 7k (MAX 7000S)
part A pins: 145 IO (io), 147 IO (io), 149 IO (io), 150 IO (io), 151 IO (io), 152 IO (io), 153 IO (io), 154 IO (io), 156 IO (io)
part B pins: 2 IO (io), 4 IO (io), 5 IO (io), 6 IO (io), 7 IO (io), 8 IO (io), 157 IO (io), 158 IO (io), 159 IO (io), 160 IO (io)
part C pins: 9 IO (io), 12 IO (io), 13 IO (io), 14 IO (io), 15 IO (io), 16 IO (io), 17 IO (io), 19 IO (io), 20 IO (io), 21 IO (io)
part D pins: 22 IO (io), 24 IO (io), 26 IO (io), 27 IO (io), 28 IO (io), 29 IO (io), 30 IO (io), 31 IO (io), 33 IO (io)
part E pins: 34 IO (io), 35 IO (io), 36 IO (io), 37 IO (io), 38 IO (io), 41 IO (io), 42 IO (io), 43 IO (io), 44 IO (io), 45 IO (io)
part F pins: 46 IO (io), 48 IO (io), 49 IO (io), 50 IO (io), 51 IO (io), 52 IO (io), 53 IO (io), 58 IO (io), 59 IO (io), 60 IO (io)
part G pins: 61 IO (io), 62 IO (io), 63 IO (io), 68 IO (io), 69 IO (io), 70 IO (io), 71 IO (io), 72 IO (io), 73 IO (io), 75 IO (io)
part H pins: 76 IO (io), 77 IO (io), 78 IO (io), 79 IO (io), 80 IO (io), 83 IO (io), 84 IO (io), 85 IO (io), 86 IO (io), 87 IO (io)
part I pins: 88 IO (io), 90 IO (io), 91 IO (io), 92 IO (io), 93 IO (io), 94 IO (io), 95 IO (io), 97 IO (io), 99 IO (io)
part J pins: 100 IO (io), 101 IO (io), 102 IO (io), 104 IO (io), 105 IO (io), 106 IO (io), 107 IO (io), 108 IO (io), 109 IO (io), 112 IO (io)
part K pins: 113 IO (io), 114 IO (io), 115 IO (io), 116 IO (io), 117 IO (io), 119 IO (io), 121 IO (io), 122 IO (io), 123 IO (io), 124 IO (io)
part L pins: 125 IO (io), 127 IO (io), 128 IO (io), 129 IO (io), 130 IO (io), 131 IO (io), 132 IO (io), 134 IO (io), 136 IO (io)
part M pins: 139 INPUT/GCLK1 (in), 140 INPUT/OE1 (in), 141 INPUT/GCLRn (in), 142 INPUT/OE2/GCLK2 (in)
part N pins: 23 TMS/IO (io), 98 TCK/IO (io), 135 TDO/IO (io), 146 TDI/IO (io)
part O pins: 10 VCCIO (3.3 V OR 5.0 V) (power), 25 VCCIO (3.3 V OR 5.0 V) (power), 40 VCCIO (3.3 V OR 5.0 V) (power), 55 VCCIO (3.3 V OR 5.0 V) (power), 56 VCCINT (5.0 V ONLY) (power), 65 VCCINT (5.0 V ONLY) (power), 74 VCCIO (3.3 V OR 5.0 V) (power), 89 VCCIO (3.3 V OR 5.0 V) (power), 103 VCCIO (3.3 V OR 5.0 V) (power), 118 VCCIO (3.3 V OR 5.0 V) (power), 133 VCCIO (3.3 V OR 5.0 V) (power), 137 VCCINT (5.0 V ONLY) (power), 144 VCCINT (5.0 V ONLY) (power), 155 VCCIO (3.3 V OR 5.0 V) (power)
part P pins: 3 GND (power), 18 GND (power), 32 GND (power), 47 GND (power), 57 GND (power), 64 GND (power), 66 GND (power), 81 GND (power), 96 GND (power), 111 GND (power), 126 GND (power), 138 GND (power), 143 GND (power), 148 GND (power)
part Q pins: 1 NC, 11 NC, 39 NC, 54 NC, 67 NC, 82 NC, 110 NC, 120 NC
part A text: BANK A
part B text: BANK B
part C text: BANK C
part D text: BANK D
part E text: BANK E
part F text: BANK F
part G text: BANK G
part H text: BANK H
part I text: BANK I
part J text: BANK J
part K text: BANK K
part L text: BANK L

## EPM7192EQI160-20
designator U?
MAX 7000E 5V CPLD, 192 Macrocells, 160-Pin PQFP, Speed Grade 20, Industrial Grade; Published: 24-Nov-2000; LatestRevisionDate: 13-Apr-2006; LatestRevisionNote: IPC-7351 Footprint Added.; DatasheetVersion: ver6.7, Sep-2005; PackageVersion: ver14.3, Jul-2006; PackageReference: PQFP160; Publisher: Altium Limited; PackageDescription: 160-Pin Plastic Quad Flat Pack (PFQP160); Code_JEDEC: MS-022-DD-1; Code_IPC: QFP65P3120X3120-160; ComponentLink1Description: Manufacturer Link; ComponentLink1URL: http://www.altera.com/products/devices/max7k/m7k-index.html; ComponentLink2Description: Datasheet; ComponentLink2URL: http://www.altera.com/literature/ds/m7000.pdf; ComponentLink3Description: Packaging Specification; ComponentLink3URL: http://www.altera.com/literature/ds/dspkg.pdf
footprint PQFP160_N (QFP, 160-Leads, Body 28 x 28mm, Pitch 0.65mm, IPC Medium Density)
footprint PQFP160_L (QFP, 160-Leads, Body 28 x 28mm, Pitch 0.65mm, IPC High Density)
footprint PQFP160_M (QFP, 160-Leads, Body 28 x 28mm, Pitch 0.65mm, IPC Low Density)
3D model EPM7192E-PQFP160 (160-Pin Plastic Quad Flat Pack (PFQP160))
signal-integrity model 7k (MAX 7000S)
part A pins: 145 IO (io), 147 IO (io), 149 IO (io), 150 IO (io), 151 IO (io), 152 IO (io), 153 IO (io), 154 IO (io), 156 IO (io)
part B pins: 2 IO (io), 4 IO (io), 5 IO (io), 6 IO (io), 7 IO (io), 8 IO (io), 157 IO (io), 158 IO (io), 159 IO (io), 160 IO (io)
part C pins: 9 IO (io), 12 IO (io), 13 IO (io), 14 IO (io), 15 IO (io), 16 IO (io), 17 IO (io), 19 IO (io), 20 IO (io), 21 IO (io)
part D pins: 22 IO (io), 24 IO (io), 26 IO (io), 27 IO (io), 28 IO (io), 29 IO (io), 30 IO (io), 31 IO (io), 33 IO (io)
part E pins: 34 IO (io), 35 IO (io), 36 IO (io), 37 IO (io), 38 IO (io), 41 IO (io), 42 IO (io), 43 IO (io), 44 IO (io), 45 IO (io)
part F pins: 46 IO (io), 48 IO (io), 49 IO (io), 50 IO (io), 51 IO (io), 52 IO (io), 53 IO (io), 58 IO (io), 59 IO (io), 60 IO (io)
part G pins: 61 IO (io), 62 IO (io), 63 IO (io), 68 IO (io), 69 IO (io), 70 IO (io), 71 IO (io), 72 IO (io), 73 IO (io), 75 IO (io)
part H pins: 76 IO (io), 77 IO (io), 78 IO (io), 79 IO (io), 80 IO (io), 83 IO (io), 84 IO (io), 85 IO (io), 86 IO (io), 87 IO (io)
part I pins: 88 IO (io), 90 IO (io), 91 IO (io), 92 IO (io), 93 IO (io), 94 IO (io), 95 IO (io), 97 IO (io), 99 IO (io)
part J pins: 100 IO (io), 101 IO (io), 102 IO (io), 104 IO (io), 105 IO (io), 106 IO (io), 107 IO (io), 108 IO (io), 109 IO (io), 112 IO (io)
part K pins: 113 IO (io), 114 IO (io), 115 IO (io), 116 IO (io), 117 IO (io), 119 IO (io), 121 IO (io), 122 IO (io), 123 IO (io), 124 IO (io)
part L pins: 125 IO (io), 127 IO (io), 128 IO (io), 129 IO (io), 130 IO (io), 131 IO (io), 132 IO (io), 134 IO (io), 136 IO (io)
part M pins: 139 INPUT/GCLK1 (in), 140 INPUT/OE1 (in), 141 INPUT/GCLRn (in), 142 INPUT/OE2/GCLK2 (in)
part N pins: 23 TMS/IO (io), 98 TCK/IO (io), 135 TDO/IO (io), 146 TDI/IO (io)
part O pins: 10 VCCIO (3.3 V OR 5.0 V) (power), 25 VCCIO (3.3 V OR 5.0 V) (power), 40 VCCIO (3.3 V OR 5.0 V) (power), 55 VCCIO (3.3 V OR 5.0 V) (power), 56 VCCINT (5.0 V ONLY) (power), 65 VCCINT (5.0 V ONLY) (power), 74 VCCIO (3.3 V OR 5.0 V) (power), 89 VCCIO (3.3 V OR 5.0 V) (power), 103 VCCIO (3.3 V OR 5.0 V) (power), 118 VCCIO (3.3 V OR 5.0 V) (power), 133 VCCIO (3.3 V OR 5.0 V) (power), 137 VCCINT (5.0 V ONLY) (power), 144 VCCINT (5.0 V ONLY) (power), 155 VCCIO (3.3 V OR 5.0 V) (power)
part P pins: 3 GND (power), 18 GND (power), 32 GND (power), 47 GND (power), 57 GND (power), 64 GND (power), 66 GND (power), 81 GND (power), 96 GND (power), 111 GND (power), 126 GND (power), 138 GND (power), 143 GND (power), 148 GND (power)
part Q pins: 1 NC, 11 NC, 39 NC, 54 NC, 67 NC, 82 NC, 110 NC, 120 NC
part A text: BANK A
part B text: BANK B
part C text: BANK C
part D text: BANK D
part E text: BANK E
part F text: BANK F
part G text: BANK G
part H text: BANK H
part I text: BANK I
part J text: BANK J
part K text: BANK K
part L text: BANK L

## EPM7192SQC160-7
designator U?
MAX 7000S 5V In-System Programmable CPLD, 192 Macrocells, 160-Pin PQFP, Speed Grade 7, Commercial Grade; Published: 24-Nov-2000; LatestRevisionDate: 13-Apr-2006; LatestRevisionNote: IPC-7351 Footprint Added.; DatasheetVersion: ver6.7, Sep-2005; PackageVersion: ver14.3, Jul-2006; PackageReference: PQFP160; Publisher: Altium Limited; PackageDescription: 160-Pin Plastic Quad Flat Pack (PFQP160); Code_JEDEC: MS-022-DD-1; Code_IPC: QFP65P3120X3120-160; ComponentLink1Description: Manufacturer Link; ComponentLink1URL: http://www.altera.com/products/devices/max7k/m7k-index.html; ComponentLink2Description: Datasheet; ComponentLink2URL: http://www.altera.com/literature/ds/m7000.pdf; ComponentLink3Description: Packaging Specification; ComponentLink3URL: http://www.altera.com/literature/ds/dspkg.pdf
footprint PQFP160_N (QFP, 160-Leads, Body 28 x 28mm, Pitch 0.65mm, IPC Medium Density)
footprint PQFP160_L (QFP, 160-Leads, Body 28 x 28mm, Pitch 0.65mm, IPC High Density)
footprint PQFP160_M (QFP, 160-Leads, Body 28 x 28mm, Pitch 0.65mm, IPC Low Density)
3D model EPM7192S-PQFP160 (160-Pin Plastic Quad Flat Pack (PFQP160))
signal-integrity model 7k (MAX 7000S)
part A pins: 145 IO (io), 147 IO (io), 149 IO (io), 150 IO (io), 151 IO (io), 152 IO (io), 153 IO (io), 154 IO (io), 156 IO (io)
part B pins: 2 IO (io), 4 IO (io), 5 IO (io), 6 IO (io), 7 IO (io), 8 IO (io), 157 IO (io), 158 IO (io), 159 IO (io), 160 IO (io)
part C pins: 9 IO (io), 12 IO (io), 13 IO (io), 14 IO (io), 15 IO (io), 16 IO (io), 17 IO (io), 19 IO (io), 20 IO (io), 21 IO (io)
part D pins: 22 IO (io), 24 IO (io), 26 IO (io), 27 IO (io), 28 IO (io), 29 IO (io), 30 IO (io), 31 IO (io), 33 IO (io)
part E pins: 34 IO (io), 35 IO (io), 36 IO (io), 37 IO (io), 38 IO (io), 41 IO (io), 42 IO (io), 43 IO (io), 44 IO (io), 45 IO (io)
part F pins: 46 IO (io), 48 IO (io), 49 IO (io), 50 IO (io), 51 IO (io), 52 IO (io), 53 IO (io), 58 IO (io), 59 IO (io), 60 IO (io)
part G pins: 61 IO (io), 62 IO (io), 63 IO (io), 68 IO (io), 69 IO (io), 70 IO (io), 71 IO (io), 72 IO (io), 73 IO (io), 75 IO (io)
part H pins: 76 IO (io), 77 IO (io), 78 IO (io), 79 IO (io), 80 IO (io), 83 IO (io), 84 IO (io), 85 IO (io), 86 IO (io), 87 IO (io)
part I pins: 88 IO (io), 90 IO (io), 91 IO (io), 92 IO (io), 93 IO (io), 94 IO (io), 95 IO (io), 97 IO (io), 99 IO (io)
part J pins: 100 IO (io), 101 IO (io), 102 IO (io), 104 IO (io), 105 IO (io), 106 IO (io), 107 IO (io), 108 IO (io), 109 IO (io), 112 IO (io)
part K pins: 113 IO (io), 114 IO (io), 115 IO (io), 116 IO (io), 117 IO (io), 119 IO (io), 121 IO (io), 122 IO (io), 123 IO (io), 124 IO (io)
part L pins: 125 IO (io), 127 IO (io), 128 IO (io), 129 IO (io), 130 IO (io), 131 IO (io), 132 IO (io), 134 IO (io), 136 IO (io)
part M pins: 139 INPUT/GCLK1 (in), 140 INPUT/OE1 (in), 141 INPUT/GCLRn (in), 142 INPUT/OE2/GCLK2 (in)
part N pins: 23 TMS/IO (io), 98 TCK/IO (io), 135 TDO/IO (io), 146 TDI/IO (io)
part O pins: 10 VCCIO (3.3 V OR 5.0 V) (power), 25 VCCIO (3.3 V OR 5.0 V) (power), 40 VCCIO (3.3 V OR 5.0 V) (power), 55 VCCIO (3.3 V OR 5.0 V) (power), 56 VCCINT (5.0 V ONLY) (power), 65 VCCINT (5.0 V ONLY) (power), 74 VCCIO (3.3 V OR 5.0 V) (power), 89 VCCIO (3.3 V OR 5.0 V) (power), 103 VCCIO (3.3 V OR 5.0 V) (power), 118 VCCIO (3.3 V OR 5.0 V) (power), 133 VCCIO (3.3 V OR 5.0 V) (power), 137 VCCINT (5.0 V ONLY) (power), 144 VCCINT (5.0 V ONLY) (power), 155 VCCIO (3.3 V OR 5.0 V) (power)
part P pins: 3 GND (power), 18 GND (power), 32 GND (power), 47 GND (power), 57 GND (power), 64 GND (power), 66 GND (power), 81 GND (power), 96 GND (power), 111 GND (power), 126 GND (power), 138 GND (power), 143 GND (power), 148 GND (power)
part Q pins: 1 NC, 11 NC, 39 NC, 54 NC, 67 NC, 82 NC, 110 NC, 120 NC
part A text: BANK A
part B text: BANK B
part C text: BANK C
part D text: BANK D
part E text: BANK E
part F text: BANK F
part G text: BANK G
part H text: BANK H
part I text: BANK I
part J text: BANK J
part K text: BANK K
part L text: BANK L

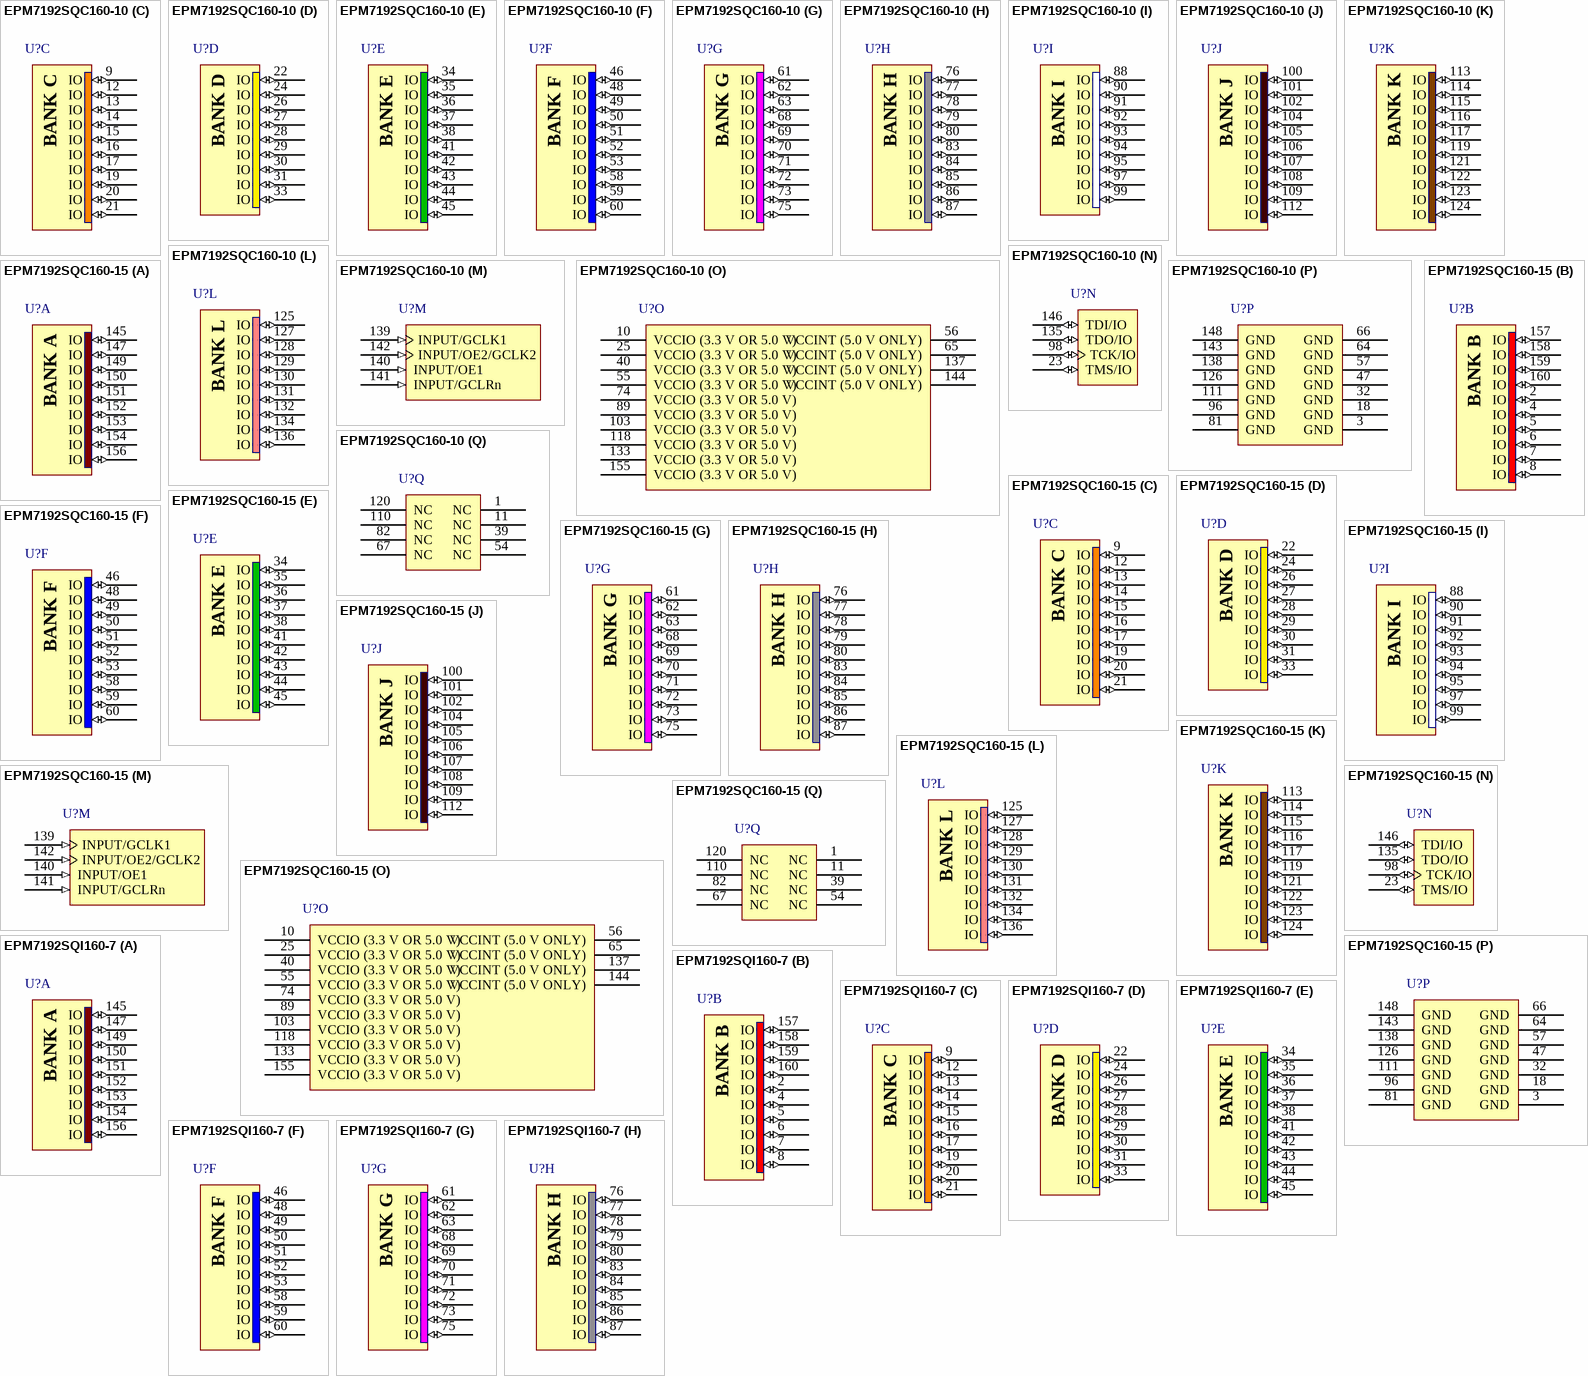
[diagram p78: symbols EPM7192SQC160-10 to EPM7192SQI160-7]

## EPM7192SQC160-10
designator U?
MAX 7000S 5V In-System Programmable CPLD, 192 Macrocells, 160-Pin PQFP, Speed Grade 10, Commercial Grade; Published: 24-Nov-2000; LatestRevisionDate: 13-Apr-2006; LatestRevisionNote: IPC-7351 Footprint Added.; DatasheetVersion: ver6.7, Sep-2005; PackageVersion: ver14.3, Jul-2006; PackageReference: PQFP160; Publisher: Altium Limited; PackageDescription: 160-Pin Plastic Quad Flat Pack (PFQP160); Code_JEDEC: MS-022-DD-1; Code_IPC: QFP65P3120X3120-160; ComponentLink1Description: Manufacturer Link; ComponentLink1URL: http://www.altera.com/products/devices/max7k/m7k-index.html; ComponentLink2Description: Datasheet; ComponentLink2URL: http://www.altera.com/literature/ds/m7000.pdf; ComponentLink3Description: Packaging Specification; ComponentLink3URL: http://www.altera.com/literature/ds/dspkg.pdf
footprint PQFP160_N (QFP, 160-Leads, Body 28 x 28mm, Pitch 0.65mm, IPC Medium Density)
footprint PQFP160_L (QFP, 160-Leads, Body 28 x 28mm, Pitch 0.65mm, IPC High Density)
footprint PQFP160_M (QFP, 160-Leads, Body 28 x 28mm, Pitch 0.65mm, IPC Low Density)
3D model EPM7192S-PQFP160 (160-Pin Plastic Quad Flat Pack (PFQP160))
signal-integrity model 7k (MAX 7000S)
part A pins: 145 IO (io), 147 IO (io), 149 IO (io), 150 IO (io), 151 IO (io), 152 IO (io), 153 IO (io), 154 IO (io), 156 IO (io)
part B pins: 2 IO (io), 4 IO (io), 5 IO (io), 6 IO (io), 7 IO (io), 8 IO (io), 157 IO (io), 158 IO (io), 159 IO (io), 160 IO (io)
part C pins: 9 IO (io), 12 IO (io), 13 IO (io), 14 IO (io), 15 IO (io), 16 IO (io), 17 IO (io), 19 IO (io), 20 IO (io), 21 IO (io)
part D pins: 22 IO (io), 24 IO (io), 26 IO (io), 27 IO (io), 28 IO (io), 29 IO (io), 30 IO (io), 31 IO (io), 33 IO (io)
part E pins: 34 IO (io), 35 IO (io), 36 IO (io), 37 IO (io), 38 IO (io), 41 IO (io), 42 IO (io), 43 IO (io), 44 IO (io), 45 IO (io)
part F pins: 46 IO (io), 48 IO (io), 49 IO (io), 50 IO (io), 51 IO (io), 52 IO (io), 53 IO (io), 58 IO (io), 59 IO (io), 60 IO (io)
part G pins: 61 IO (io), 62 IO (io), 63 IO (io), 68 IO (io), 69 IO (io), 70 IO (io), 71 IO (io), 72 IO (io), 73 IO (io), 75 IO (io)
part H pins: 76 IO (io), 77 IO (io), 78 IO (io), 79 IO (io), 80 IO (io), 83 IO (io), 84 IO (io), 85 IO (io), 86 IO (io), 87 IO (io)
part I pins: 88 IO (io), 90 IO (io), 91 IO (io), 92 IO (io), 93 IO (io), 94 IO (io), 95 IO (io), 97 IO (io), 99 IO (io)
part J pins: 100 IO (io), 101 IO (io), 102 IO (io), 104 IO (io), 105 IO (io), 106 IO (io), 107 IO (io), 108 IO (io), 109 IO (io), 112 IO (io)
part K pins: 113 IO (io), 114 IO (io), 115 IO (io), 116 IO (io), 117 IO (io), 119 IO (io), 121 IO (io), 122 IO (io), 123 IO (io), 124 IO (io)
part L pins: 125 IO (io), 127 IO (io), 128 IO (io), 129 IO (io), 130 IO (io), 131 IO (io), 132 IO (io), 134 IO (io), 136 IO (io)
part M pins: 139 INPUT/GCLK1 (in), 140 INPUT/OE1 (in), 141 INPUT/GCLRn (in), 142 INPUT/OE2/GCLK2 (in)
part N pins: 23 TMS/IO (io), 98 TCK/IO (io), 135 TDO/IO (io), 146 TDI/IO (io)
part O pins: 10 VCCIO (3.3 V OR 5.0 V) (power), 25 VCCIO (3.3 V OR 5.0 V) (power), 40 VCCIO (3.3 V OR 5.0 V) (power), 55 VCCIO (3.3 V OR 5.0 V) (power), 56 VCCINT (5.0 V ONLY) (power), 65 VCCINT (5.0 V ONLY) (power), 74 VCCIO (3.3 V OR 5.0 V) (power), 89 VCCIO (3.3 V OR 5.0 V) (power), 103 VCCIO (3.3 V OR 5.0 V) (power), 118 VCCIO (3.3 V OR 5.0 V) (power), 133 VCCIO (3.3 V OR 5.0 V) (power), 137 VCCINT (5.0 V ONLY) (power), 144 VCCINT (5.0 V ONLY) (power), 155 VCCIO (3.3 V OR 5.0 V) (power)
part P pins: 3 GND (power), 18 GND (power), 32 GND (power), 47 GND (power), 57 GND (power), 64 GND (power), 66 GND (power), 81 GND (power), 96 GND (power), 111 GND (power), 126 GND (power), 138 GND (power), 143 GND (power), 148 GND (power)
part Q pins: 1 NC, 11 NC, 39 NC, 54 NC, 67 NC, 82 NC, 110 NC, 120 NC
part A text: BANK A
part B text: BANK B
part C text: BANK C
part D text: BANK D
part E text: BANK E
part F text: BANK F
part G text: BANK G
part H text: BANK H
part I text: BANK I
part J text: BANK J
part K text: BANK K
part L text: BANK L

## EPM7192SQC160-15
designator U?
MAX 7000S 5V In-System Programmable CPLD, 192 Macrocells, 160-Pin PQFP, Speed Grade 15, Commercial Grade; Published: 24-Nov-2000; LatestRevisionDate: 13-Apr-2006; LatestRevisionNote: IPC-7351 Footprint Added.; DatasheetVersion: ver6.7, Sep-2005; PackageVersion: ver14.3, Jul-2006; PackageReference: PQFP160; Publisher: Altium Limited; PackageDescription: 160-Pin Plastic Quad Flat Pack (PFQP160); Code_JEDEC: MS-022-DD-1; Code_IPC: QFP65P3120X3120-160; ComponentLink1Description: Manufacturer Link; ComponentLink1URL: http://www.altera.com/products/devices/max7k/m7k-index.html; ComponentLink2Description: Datasheet; ComponentLink2URL: http://www.altera.com/literature/ds/m7000.pdf; ComponentLink3Description: Packaging Specification; ComponentLink3URL: http://www.altera.com/literature/ds/dspkg.pdf
footprint PQFP160_N (QFP, 160-Leads, Body 28 x 28mm, Pitch 0.65mm, IPC Medium Density)
footprint PQFP160_L (QFP, 160-Leads, Body 28 x 28mm, Pitch 0.65mm, IPC High Density)
footprint PQFP160_M (QFP, 160-Leads, Body 28 x 28mm, Pitch 0.65mm, IPC Low Density)
3D model EPM7192S-PQFP160 (160-Pin Plastic Quad Flat Pack (PFQP160))
signal-integrity model 7k (MAX 7000S)
part A pins: 145 IO (io), 147 IO (io), 149 IO (io), 150 IO (io), 151 IO (io), 152 IO (io), 153 IO (io), 154 IO (io), 156 IO (io)
part B pins: 2 IO (io), 4 IO (io), 5 IO (io), 6 IO (io), 7 IO (io), 8 IO (io), 157 IO (io), 158 IO (io), 159 IO (io), 160 IO (io)
part C pins: 9 IO (io), 12 IO (io), 13 IO (io), 14 IO (io), 15 IO (io), 16 IO (io), 17 IO (io), 19 IO (io), 20 IO (io), 21 IO (io)
part D pins: 22 IO (io), 24 IO (io), 26 IO (io), 27 IO (io), 28 IO (io), 29 IO (io), 30 IO (io), 31 IO (io), 33 IO (io)
part E pins: 34 IO (io), 35 IO (io), 36 IO (io), 37 IO (io), 38 IO (io), 41 IO (io), 42 IO (io), 43 IO (io), 44 IO (io), 45 IO (io)
part F pins: 46 IO (io), 48 IO (io), 49 IO (io), 50 IO (io), 51 IO (io), 52 IO (io), 53 IO (io), 58 IO (io), 59 IO (io), 60 IO (io)
part G pins: 61 IO (io), 62 IO (io), 63 IO (io), 68 IO (io), 69 IO (io), 70 IO (io), 71 IO (io), 72 IO (io), 73 IO (io), 75 IO (io)
part H pins: 76 IO (io), 77 IO (io), 78 IO (io), 79 IO (io), 80 IO (io), 83 IO (io), 84 IO (io), 85 IO (io), 86 IO (io), 87 IO (io)
part I pins: 88 IO (io), 90 IO (io), 91 IO (io), 92 IO (io), 93 IO (io), 94 IO (io), 95 IO (io), 97 IO (io), 99 IO (io)
part J pins: 100 IO (io), 101 IO (io), 102 IO (io), 104 IO (io), 105 IO (io), 106 IO (io), 107 IO (io), 108 IO (io), 109 IO (io), 112 IO (io)
part K pins: 113 IO (io), 114 IO (io), 115 IO (io), 116 IO (io), 117 IO (io), 119 IO (io), 121 IO (io), 122 IO (io), 123 IO (io), 124 IO (io)
part L pins: 125 IO (io), 127 IO (io), 128 IO (io), 129 IO (io), 130 IO (io), 131 IO (io), 132 IO (io), 134 IO (io), 136 IO (io)
part M pins: 139 INPUT/GCLK1 (in), 140 INPUT/OE1 (in), 141 INPUT/GCLRn (in), 142 INPUT/OE2/GCLK2 (in)
part N pins: 23 TMS/IO (io), 98 TCK/IO (io), 135 TDO/IO (io), 146 TDI/IO (io)
part O pins: 10 VCCIO (3.3 V OR 5.0 V) (power), 25 VCCIO (3.3 V OR 5.0 V) (power), 40 VCCIO (3.3 V OR 5.0 V) (power), 55 VCCIO (3.3 V OR 5.0 V) (power), 56 VCCINT (5.0 V ONLY) (power), 65 VCCINT (5.0 V ONLY) (power), 74 VCCIO (3.3 V OR 5.0 V) (power), 89 VCCIO (3.3 V OR 5.0 V) (power), 103 VCCIO (3.3 V OR 5.0 V) (power), 118 VCCIO (3.3 V OR 5.0 V) (power), 133 VCCIO (3.3 V OR 5.0 V) (power), 137 VCCINT (5.0 V ONLY) (power), 144 VCCINT (5.0 V ONLY) (power), 155 VCCIO (3.3 V OR 5.0 V) (power)
part P pins: 3 GND (power), 18 GND (power), 32 GND (power), 47 GND (power), 57 GND (power), 64 GND (power), 66 GND (power), 81 GND (power), 96 GND (power), 111 GND (power), 126 GND (power), 138 GND (power), 143 GND (power), 148 GND (power)
part Q pins: 1 NC, 11 NC, 39 NC, 54 NC, 67 NC, 82 NC, 110 NC, 120 NC
part A text: BANK A
part B text: BANK B
part C text: BANK C
part D text: BANK D
part E text: BANK E
part F text: BANK F
part G text: BANK G
part H text: BANK H
part I text: BANK I
part J text: BANK J
part K text: BANK K
part L text: BANK L

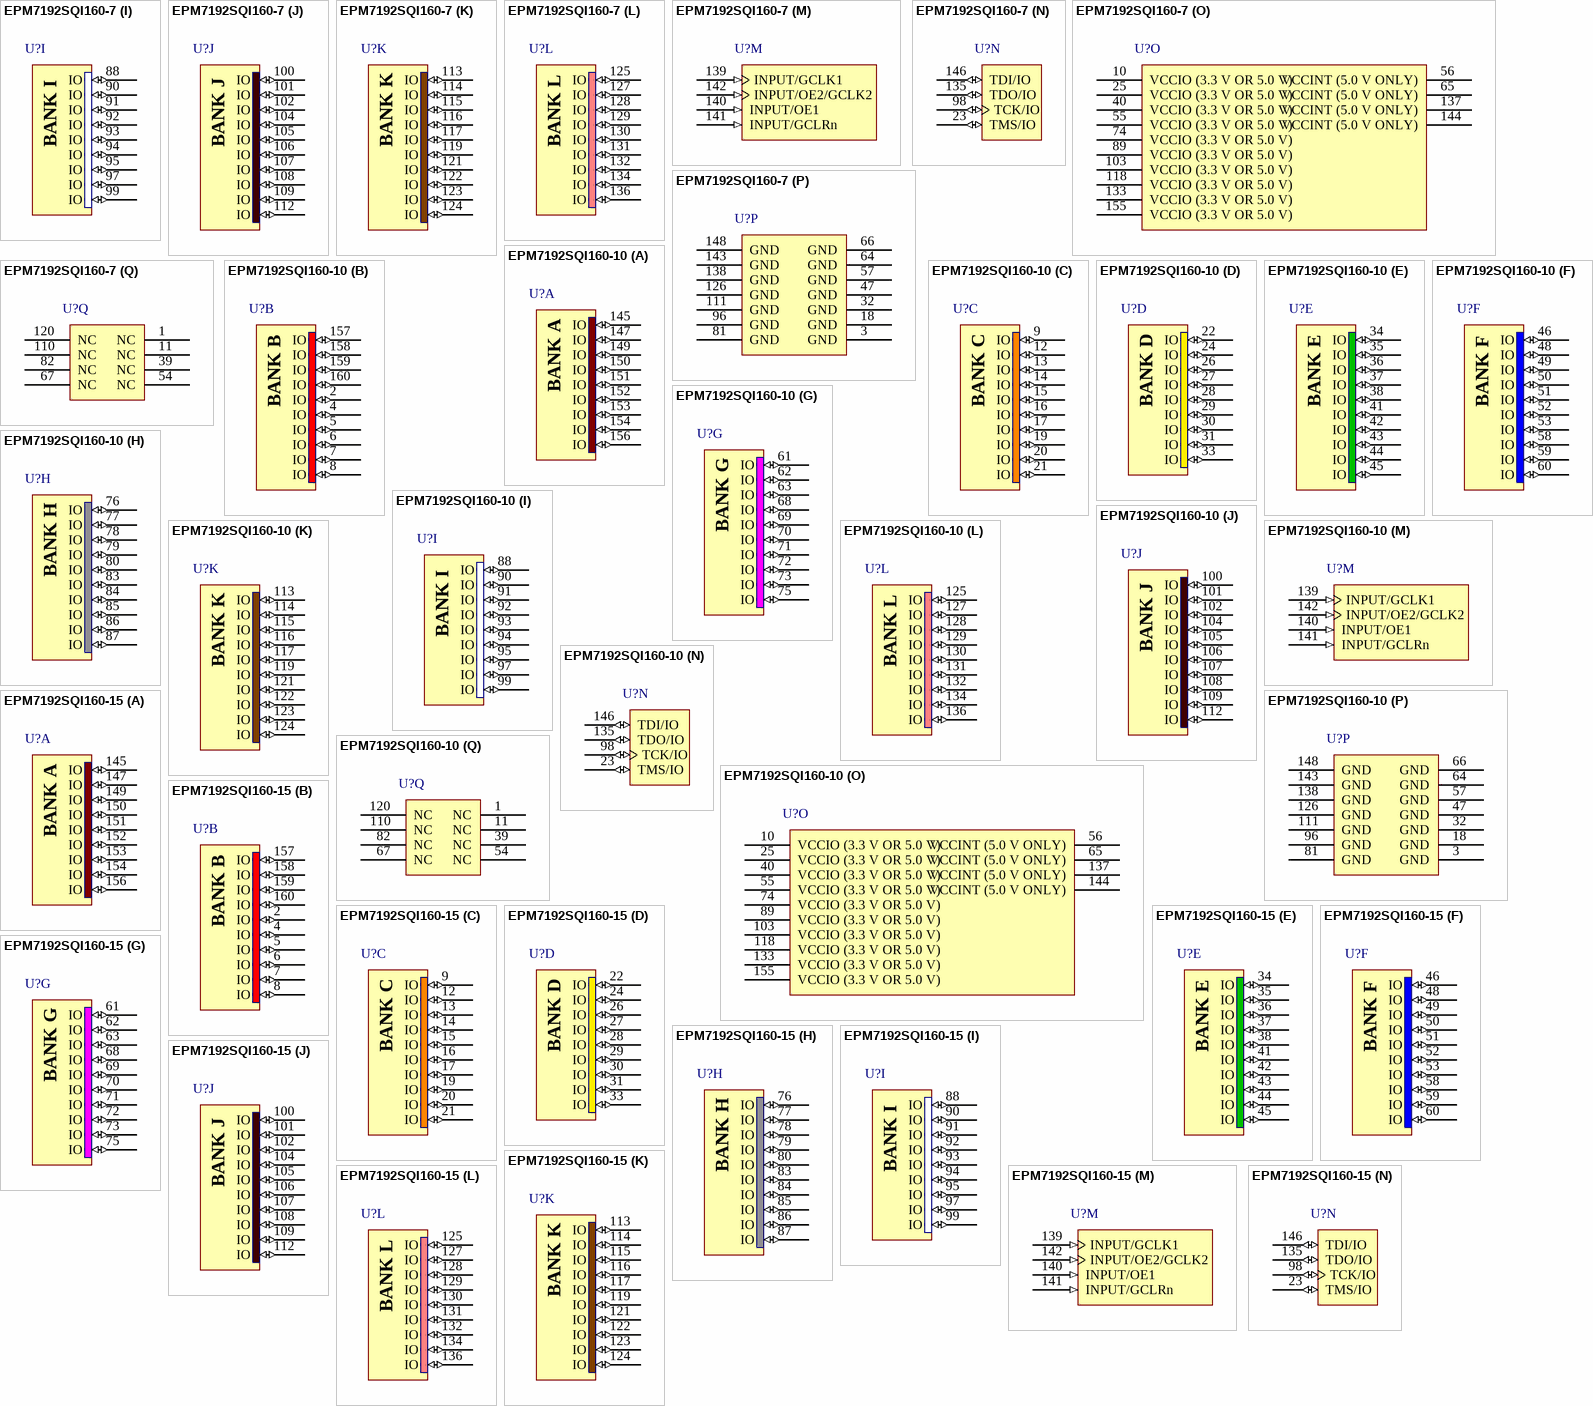
[diagram p79: symbols EPM7192SQI160-7 to EPM7192SQI160-15]

## EPM7192SQI160-7
designator U?
MAX 7000S 5V In-System Programmable CPLD, 192 Macrocells, 160-Pin PQFP, Speed Grade 7, Industrial Grade; Published: 17-Sep-2003; LatestRevisionDate: 13-Apr-2006; LatestRevisionNote: IPC-7351 Footprint Added.; DatasheetVersion: ver6.7, Sep-2005; PackageVersion: ver14.3, Jul-2006; PackageReference: PQFP160; Publisher: Altium Limited; PackageDescription: 160-Pin Plastic Quad Flat Pack (PFQP160); Code_JEDEC: MS-022-DD-1; Code_IPC: QFP65P3120X3120-160; ComponentLink1Description: Manufacturer Link; ComponentLink1URL: http://www.altera.com/products/devices/max7k/m7k-index.html; ComponentLink2Description: Datasheet; ComponentLink2URL: http://www.altera.com/literature/ds/m7000.pdf; ComponentLink3Description: Packaging Specification; ComponentLink3URL: http://www.altera.com/literature/ds/dspkg.pdf
footprint PQFP160_N (QFP, 160-Leads, Body 28 x 28mm, Pitch 0.65mm, IPC Medium Density)
footprint PQFP160_L (QFP, 160-Leads, Body 28 x 28mm, Pitch 0.65mm, IPC High Density)
footprint PQFP160_M (QFP, 160-Leads, Body 28 x 28mm, Pitch 0.65mm, IPC Low Density)
3D model EPM7192S-PQFP160 (160-Pin Plastic Quad Flat Pack (PFQP160))
signal-integrity model 7k (MAX 7000S)
part A pins: 145 IO (io), 147 IO (io), 149 IO (io), 150 IO (io), 151 IO (io), 152 IO (io), 153 IO (io), 154 IO (io), 156 IO (io)
part B pins: 2 IO (io), 4 IO (io), 5 IO (io), 6 IO (io), 7 IO (io), 8 IO (io), 157 IO (io), 158 IO (io), 159 IO (io), 160 IO (io)
part C pins: 9 IO (io), 12 IO (io), 13 IO (io), 14 IO (io), 15 IO (io), 16 IO (io), 17 IO (io), 19 IO (io), 20 IO (io), 21 IO (io)
part D pins: 22 IO (io), 24 IO (io), 26 IO (io), 27 IO (io), 28 IO (io), 29 IO (io), 30 IO (io), 31 IO (io), 33 IO (io)
part E pins: 34 IO (io), 35 IO (io), 36 IO (io), 37 IO (io), 38 IO (io), 41 IO (io), 42 IO (io), 43 IO (io), 44 IO (io), 45 IO (io)
part F pins: 46 IO (io), 48 IO (io), 49 IO (io), 50 IO (io), 51 IO (io), 52 IO (io), 53 IO (io), 58 IO (io), 59 IO (io), 60 IO (io)
part G pins: 61 IO (io), 62 IO (io), 63 IO (io), 68 IO (io), 69 IO (io), 70 IO (io), 71 IO (io), 72 IO (io), 73 IO (io), 75 IO (io)
part H pins: 76 IO (io), 77 IO (io), 78 IO (io), 79 IO (io), 80 IO (io), 83 IO (io), 84 IO (io), 85 IO (io), 86 IO (io), 87 IO (io)
part I pins: 88 IO (io), 90 IO (io), 91 IO (io), 92 IO (io), 93 IO (io), 94 IO (io), 95 IO (io), 97 IO (io), 99 IO (io)
part J pins: 100 IO (io), 101 IO (io), 102 IO (io), 104 IO (io), 105 IO (io), 106 IO (io), 107 IO (io), 108 IO (io), 109 IO (io), 112 IO (io)
part K pins: 113 IO (io), 114 IO (io), 115 IO (io), 116 IO (io), 117 IO (io), 119 IO (io), 121 IO (io), 122 IO (io), 123 IO (io), 124 IO (io)
part L pins: 125 IO (io), 127 IO (io), 128 IO (io), 129 IO (io), 130 IO (io), 131 IO (io), 132 IO (io), 134 IO (io), 136 IO (io)
part M pins: 139 INPUT/GCLK1 (in), 140 INPUT/OE1 (in), 141 INPUT/GCLRn (in), 142 INPUT/OE2/GCLK2 (in)
part N pins: 23 TMS/IO (io), 98 TCK/IO (io), 135 TDO/IO (io), 146 TDI/IO (io)
part O pins: 10 VCCIO (3.3 V OR 5.0 V) (power), 25 VCCIO (3.3 V OR 5.0 V) (power), 40 VCCIO (3.3 V OR 5.0 V) (power), 55 VCCIO (3.3 V OR 5.0 V) (power), 56 VCCINT (5.0 V ONLY) (power), 65 VCCINT (5.0 V ONLY) (power), 74 VCCIO (3.3 V OR 5.0 V) (power), 89 VCCIO (3.3 V OR 5.0 V) (power), 103 VCCIO (3.3 V OR 5.0 V) (power), 118 VCCIO (3.3 V OR 5.0 V) (power), 133 VCCIO (3.3 V OR 5.0 V) (power), 137 VCCINT (5.0 V ONLY) (power), 144 VCCINT (5.0 V ONLY) (power), 155 VCCIO (3.3 V OR 5.0 V) (power)
part P pins: 3 GND (power), 18 GND (power), 32 GND (power), 47 GND (power), 57 GND (power), 64 GND (power), 66 GND (power), 81 GND (power), 96 GND (power), 111 GND (power), 126 GND (power), 138 GND (power), 143 GND (power), 148 GND (power)
part Q pins: 1 NC, 11 NC, 39 NC, 54 NC, 67 NC, 82 NC, 110 NC, 120 NC
part A text: BANK A
part B text: BANK B
part C text: BANK C
part D text: BANK D
part E text: BANK E
part F text: BANK F
part G text: BANK G
part H text: BANK H
part I text: BANK I
part J text: BANK J
part K text: BANK K
part L text: BANK L

## EPM7192SQI160-10
designator U?
MAX 7000S 5V In-System Programmable CPLD, 192 Macrocells, 160-Pin PQFP, Speed Grade 10, Industrial Grade; Published: 17-Jul-2002; LatestRevisionDate: 13-Apr-2006; LatestRevisionNote: IPC-7351 Footprint Added.; DatasheetVersion: ver6.7, Sep-2005; PackageVersion: ver14.3, Jul-2006; PackageReference: PQFP160; Publisher: Altium Limited; PackageDescription: 160-Pin Plastic Quad Flat Pack (PFQP160); Code_JEDEC: MS-022-DD-1; Code_IPC: QFP65P3120X3120-160; ComponentLink1Description: Manufacturer Link; ComponentLink1URL: http://www.altera.com/products/devices/max7k/m7k-index.html; ComponentLink2Description: Datasheet; ComponentLink2URL: http://www.altera.com/literature/ds/m7000.pdf; ComponentLink3Description: Packaging Specification; ComponentLink3URL: http://www.altera.com/literature/ds/dspkg.pdf
footprint PQFP160_N (QFP, 160-Leads, Body 28 x 28mm, Pitch 0.65mm, IPC Medium Density)
footprint PQFP160_L (QFP, 160-Leads, Body 28 x 28mm, Pitch 0.65mm, IPC High Density)
footprint PQFP160_M (QFP, 160-Leads, Body 28 x 28mm, Pitch 0.65mm, IPC Low Density)
3D model EPM7192S-PQFP160 (160-Pin Plastic Quad Flat Pack (PFQP160))
signal-integrity model 7k (MAX 7000S)
part A pins: 145 IO (io), 147 IO (io), 149 IO (io), 150 IO (io), 151 IO (io), 152 IO (io), 153 IO (io), 154 IO (io), 156 IO (io)
part B pins: 2 IO (io), 4 IO (io), 5 IO (io), 6 IO (io), 7 IO (io), 8 IO (io), 157 IO (io), 158 IO (io), 159 IO (io), 160 IO (io)
part C pins: 9 IO (io), 12 IO (io), 13 IO (io), 14 IO (io), 15 IO (io), 16 IO (io), 17 IO (io), 19 IO (io), 20 IO (io), 21 IO (io)
part D pins: 22 IO (io), 24 IO (io), 26 IO (io), 27 IO (io), 28 IO (io), 29 IO (io), 30 IO (io), 31 IO (io), 33 IO (io)
part E pins: 34 IO (io), 35 IO (io), 36 IO (io), 37 IO (io), 38 IO (io), 41 IO (io), 42 IO (io), 43 IO (io), 44 IO (io), 45 IO (io)
part F pins: 46 IO (io), 48 IO (io), 49 IO (io), 50 IO (io), 51 IO (io), 52 IO (io), 53 IO (io), 58 IO (io), 59 IO (io), 60 IO (io)
part G pins: 61 IO (io), 62 IO (io), 63 IO (io), 68 IO (io), 69 IO (io), 70 IO (io), 71 IO (io), 72 IO (io), 73 IO (io), 75 IO (io)
part H pins: 76 IO (io), 77 IO (io), 78 IO (io), 79 IO (io), 80 IO (io), 83 IO (io), 84 IO (io), 85 IO (io), 86 IO (io), 87 IO (io)
part I pins: 88 IO (io), 90 IO (io), 91 IO (io), 92 IO (io), 93 IO (io), 94 IO (io), 95 IO (io), 97 IO (io), 99 IO (io)
part J pins: 100 IO (io), 101 IO (io), 102 IO (io), 104 IO (io), 105 IO (io), 106 IO (io), 107 IO (io), 108 IO (io), 109 IO (io), 112 IO (io)
part K pins: 113 IO (io), 114 IO (io), 115 IO (io), 116 IO (io), 117 IO (io), 119 IO (io), 121 IO (io), 122 IO (io), 123 IO (io), 124 IO (io)
part L pins: 125 IO (io), 127 IO (io), 128 IO (io), 129 IO (io), 130 IO (io), 131 IO (io), 132 IO (io), 134 IO (io), 136 IO (io)
part M pins: 139 INPUT/GCLK1 (in), 140 INPUT/OE1 (in), 141 INPUT/GCLRn (in), 142 INPUT/OE2/GCLK2 (in)
part N pins: 23 TMS/IO (io), 98 TCK/IO (io), 135 TDO/IO (io), 146 TDI/IO (io)
part O pins: 10 VCCIO (3.3 V OR 5.0 V) (power), 25 VCCIO (3.3 V OR 5.0 V) (power), 40 VCCIO (3.3 V OR 5.0 V) (power), 55 VCCIO (3.3 V OR 5.0 V) (power), 56 VCCINT (5.0 V ONLY) (power), 65 VCCINT (5.0 V ONLY) (power), 74 VCCIO (3.3 V OR 5.0 V) (power), 89 VCCIO (3.3 V OR 5.0 V) (power), 103 VCCIO (3.3 V OR 5.0 V) (power), 118 VCCIO (3.3 V OR 5.0 V) (power), 133 VCCIO (3.3 V OR 5.0 V) (power), 137 VCCINT (5.0 V ONLY) (power), 144 VCCINT (5.0 V ONLY) (power), 155 VCCIO (3.3 V OR 5.0 V) (power)
part P pins: 3 GND (power), 18 GND (power), 32 GND (power), 47 GND (power), 57 GND (power), 64 GND (power), 66 GND (power), 81 GND (power), 96 GND (power), 111 GND (power), 126 GND (power), 138 GND (power), 143 GND (power), 148 GND (power)
part Q pins: 1 NC, 11 NC, 39 NC, 54 NC, 67 NC, 82 NC, 110 NC, 120 NC
part A text: BANK A
part B text: BANK B
part C text: BANK C
part D text: BANK D
part E text: BANK E
part F text: BANK F
part G text: BANK G
part H text: BANK H
part I text: BANK I
part J text: BANK J
part K text: BANK K
part L text: BANK L

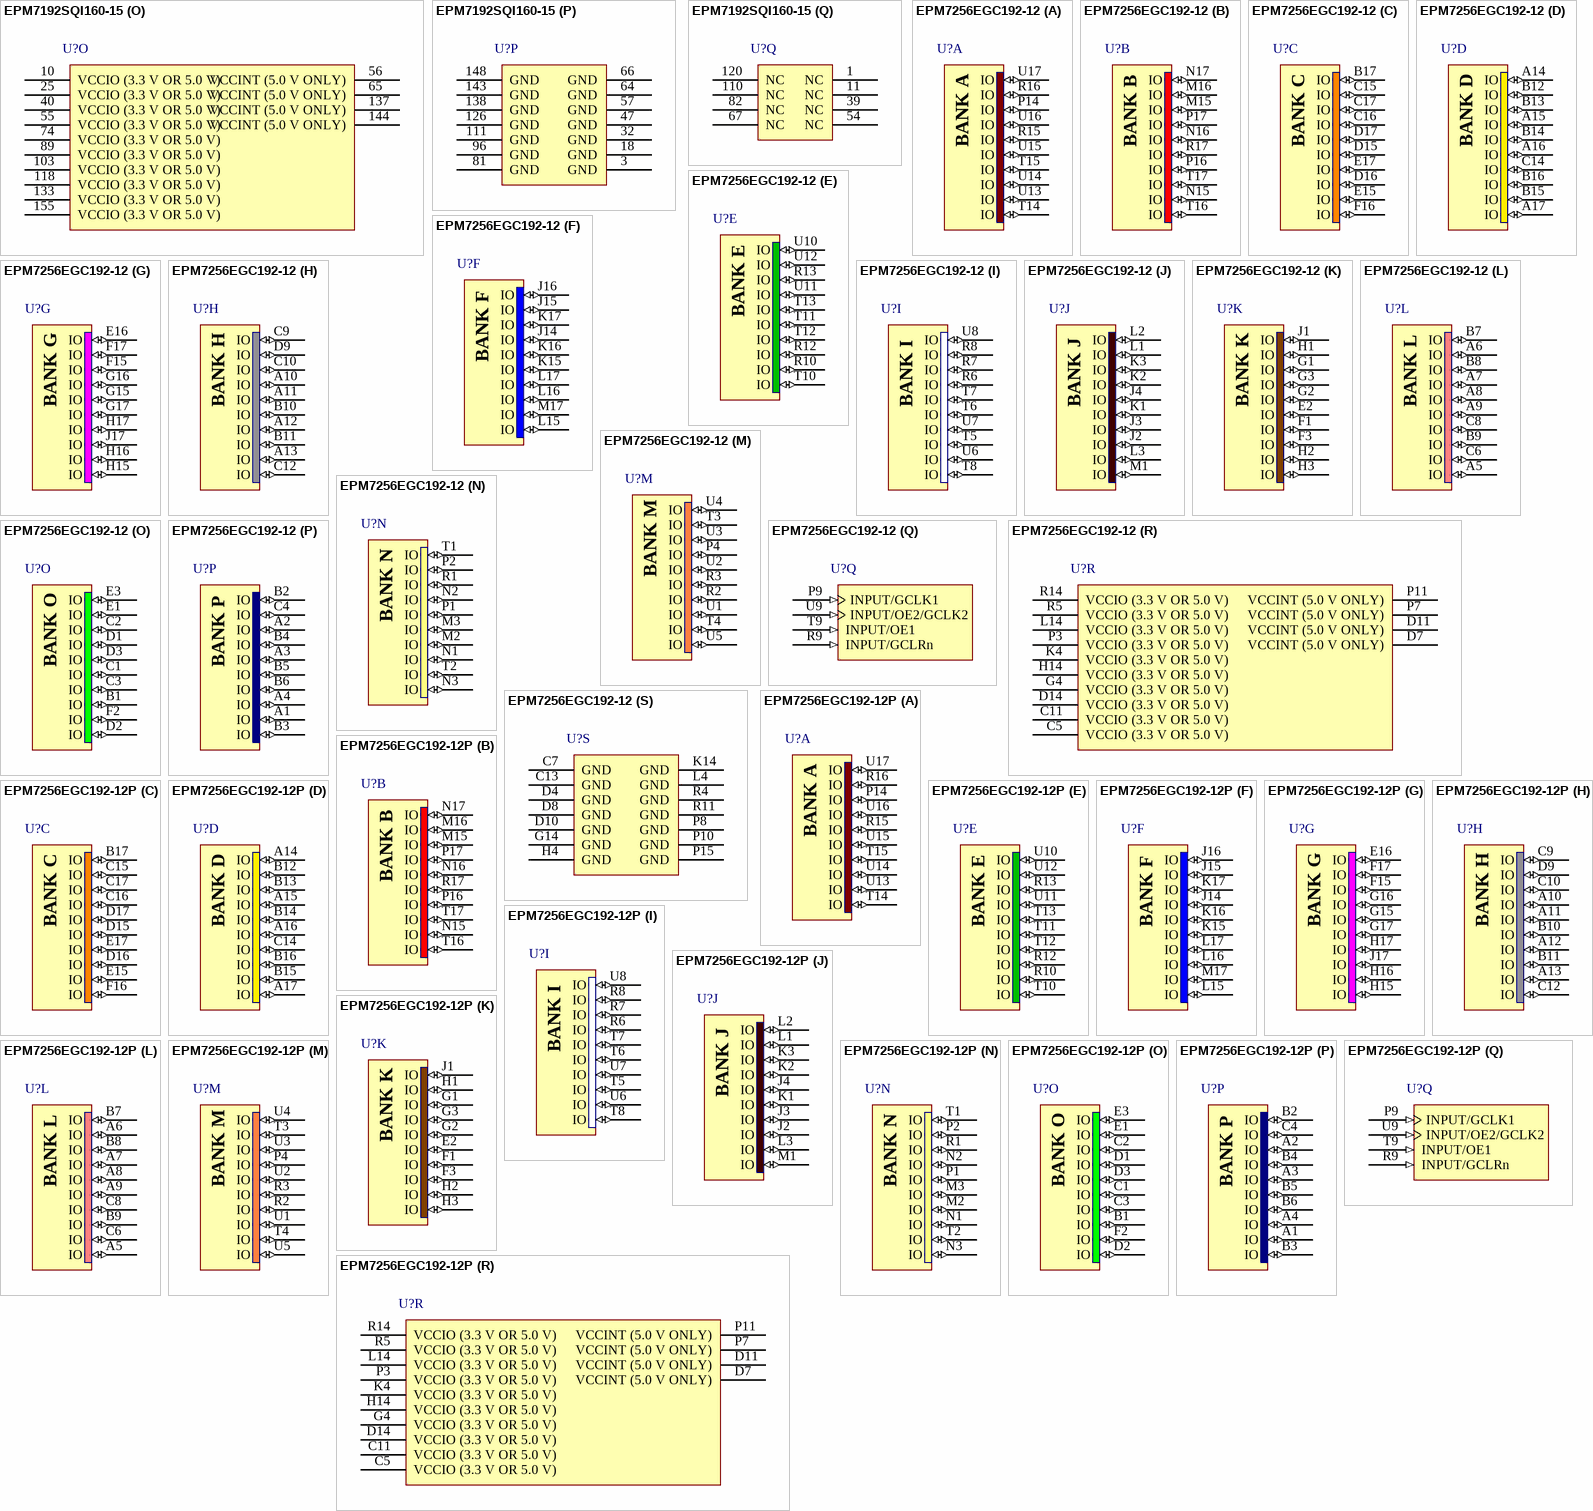
[diagram p80: symbols EPM7192SQI160-15 to EPM7256EGC192-12P]